# Altium schematic symbol library adafruit.SCHLIB: 648 symbols (part 3 of 4)
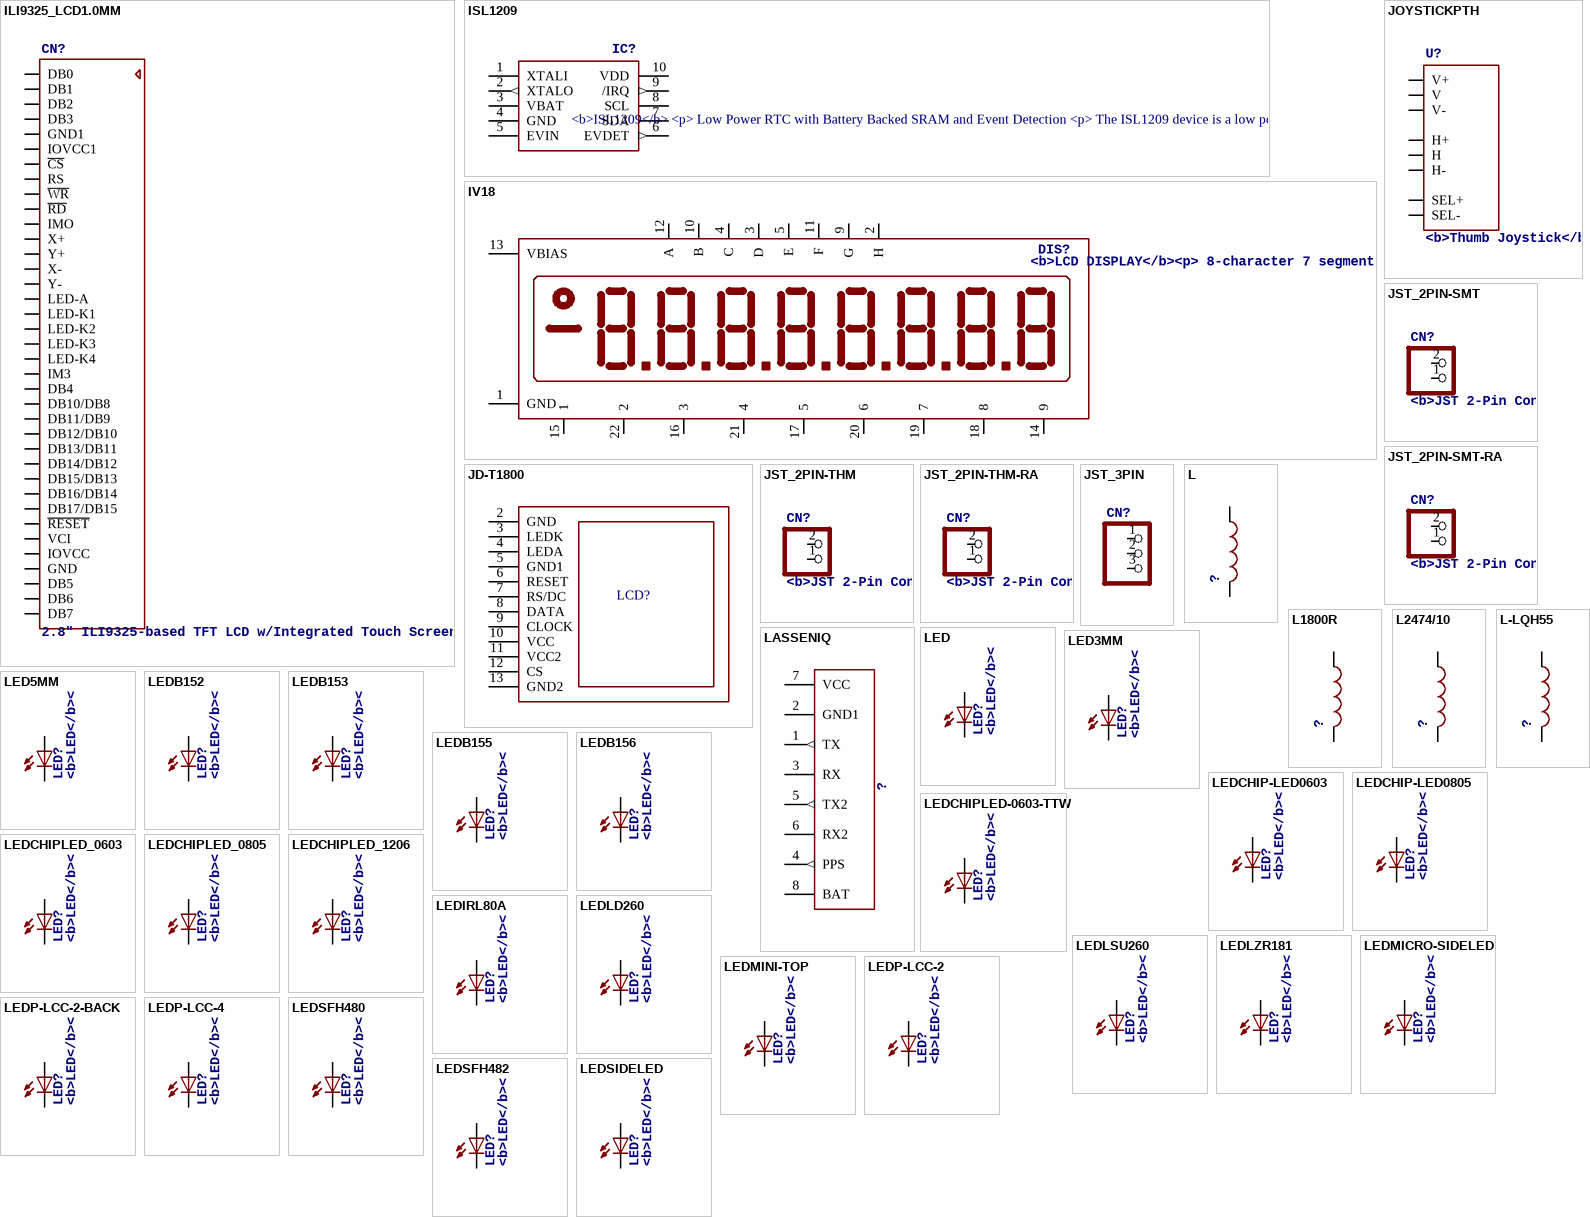
[diagram p33: symbols ILI9325_LCD1.0MM to LEDSIDELED]

## LEDMICRO-SIDELED
designator LED?, comment <b>LED</b><p> / <u>OSRAM</u>:<br> / - <u>CHIPLED</u><br> / LG R971, LG N971, LY N971, LG Q971, LY Q971, LO R971, LY R971 / LH N974, LH R974<br> / LS Q976, LO Q976, LY Q976<br> / LO Q996<br> / - <u>Hyper CHIPLED</u><br> / LW Q18S<br> / LB Q993, LB Q99A, LB R99A<br> / - <u>SideLED</u><br> / LS A670, LO A670, LY A670, LG A670, LP A670<br> / LB A673, LV A673, LT A673, LW A673<br> / LH A674<br> / LY A675<br> / LS A676, LA A676, LO A676, LY A676, LW A676<br> / LS A679, LY A679, LG A679<br> / -  <u>Hyper Micro SIDELED®</u><br> / LS Y876, LA Y876, LO Y876, LY Y876<br> / LT Y87S<br> / - <u>SmartLED</u><br> / LW L88C, LW L88S<br> / LB L89C, LB L89S, LG L890<br> / LS L89K, LO L89K, LY L89K<br> / LS L896, LA L896, LO L896, LY L896<br> / - <u>TOPLED</u><br> / LS T670, LO T670, LY T670, LG T670, LP T670<br> / LSG T670, LSP T670, LSY T670, LOP T670, LYG T670<br> / LG T671, LOG T671, LSG T671<br> / LB T673, LV T673, LT T673, LW T673<br> / LH T674<br> / LS T676, LA T676, LO T676, LY T676, LB T676, LH T676, LSB T676, LW T676<br> / LB T67C, LV T67C, LT T67C, LS T67K, LO T67K, LY T67K, LW E67C<br> / LS E67B, LA E67B, LO E67B, LY E67B, LB E67C, LV E67C, LT E67C<br> / LW T67C<br> / LS T679, LY T679, LG T679<br> / LS T770, LO T770, LY T770, LG T770, LP T770<br> / LB T773, LV T773, LT T773, LW T773<br> / LH T774<br> / LS E675, LA E675, LY E675, LS T675<br> / LS T776, LA T776, LO T776, LY T776, LB T776<br> / LHGB T686<br> / LT T68C, LB T68C<br> / - <u>Hyper Mini TOPLED®</u><br> / LB M676<br> / - <u>Mini TOPLED Santana®</u><br> / LG M470<br> / LS M47K, LO M47K, LY M47K<br> / <p> / Source: http://www.osram.convergy.de/
footprint MICRO-SIDELED
pins: A, C

## LEDMINI-TOP
designator LED?, comment <b>LED</b><p> / <u>OSRAM</u>:<br> / - <u>CHIPLED</u><br> / LG R971, LG N971, LY N971, LG Q971, LY Q971, LO R971, LY R971 / LH N974, LH R974<br> / LS Q976, LO Q976, LY Q976<br> / LO Q996<br> / - <u>Hyper CHIPLED</u><br> / LW Q18S<br> / LB Q993, LB Q99A, LB R99A<br> / - <u>SideLED</u><br> / LS A670, LO A670, LY A670, LG A670, LP A670<br> / LB A673, LV A673, LT A673, LW A673<br> / LH A674<br> / LY A675<br> / LS A676, LA A676, LO A676, LY A676, LW A676<br> / LS A679, LY A679, LG A679<br> / -  <u>Hyper Micro SIDELED®</u><br> / LS Y876, LA Y876, LO Y876, LY Y876<br> / LT Y87S<br> / - <u>SmartLED</u><br> / LW L88C, LW L88S<br> / LB L89C, LB L89S, LG L890<br> / LS L89K, LO L89K, LY L89K<br> / LS L896, LA L896, LO L896, LY L896<br> / - <u>TOPLED</u><br> / LS T670, LO T670, LY T670, LG T670, LP T670<br> / LSG T670, LSP T670, LSY T670, LOP T670, LYG T670<br> / LG T671, LOG T671, LSG T671<br> / LB T673, LV T673, LT T673, LW T673<br> / LH T674<br> / LS T676, LA T676, LO T676, LY T676, LB T676, LH T676, LSB T676, LW T676<br> / LB T67C, LV T67C, LT T67C, LS T67K, LO T67K, LY T67K, LW E67C<br> / LS E67B, LA E67B, LO E67B, LY E67B, LB E67C, LV E67C, LT E67C<br> / LW T67C<br> / LS T679, LY T679, LG T679<br> / LS T770, LO T770, LY T770, LG T770, LP T770<br> / LB T773, LV T773, LT T773, LW T773<br> / LH T774<br> / LS E675, LA E675, LY E675, LS T675<br> / LS T776, LA T776, LO T776, LY T776, LB T776<br> / LHGB T686<br> / LT T68C, LB T68C<br> / - <u>Hyper Mini TOPLED®</u><br> / LB M676<br> / - <u>Mini TOPLED Santana®</u><br> / LG M470<br> / LS M47K, LO M47K, LY M47K<br> / <p> / Source: http://www.osram.convergy.de/
footprint OSRAM-MINI-TOP-LED
pins: A, C

## LEDP-LCC-2
designator LED?, comment <b>LED</b><p> / <u>OSRAM</u>:<br> / - <u>CHIPLED</u><br> / LG R971, LG N971, LY N971, LG Q971, LY Q971, LO R971, LY R971 / LH N974, LH R974<br> / LS Q976, LO Q976, LY Q976<br> / LO Q996<br> / - <u>Hyper CHIPLED</u><br> / LW Q18S<br> / LB Q993, LB Q99A, LB R99A<br> / - <u>SideLED</u><br> / LS A670, LO A670, LY A670, LG A670, LP A670<br> / LB A673, LV A673, LT A673, LW A673<br> / LH A674<br> / LY A675<br> / LS A676, LA A676, LO A676, LY A676, LW A676<br> / LS A679, LY A679, LG A679<br> / -  <u>Hyper Micro SIDELED®</u><br> / LS Y876, LA Y876, LO Y876, LY Y876<br> / LT Y87S<br> / - <u>SmartLED</u><br> / LW L88C, LW L88S<br> / LB L89C, LB L89S, LG L890<br> / LS L89K, LO L89K, LY L89K<br> / LS L896, LA L896, LO L896, LY L896<br> / - <u>TOPLED</u><br> / LS T670, LO T670, LY T670, LG T670, LP T670<br> / LSG T670, LSP T670, LSY T670, LOP T670, LYG T670<br> / LG T671, LOG T671, LSG T671<br> / LB T673, LV T673, LT T673, LW T673<br> / LH T674<br> / LS T676, LA T676, LO T676, LY T676, LB T676, LH T676, LSB T676, LW T676<br> / LB T67C, LV T67C, LT T67C, LS T67K, LO T67K, LY T67K, LW E67C<br> / LS E67B, LA E67B, LO E67B, LY E67B, LB E67C, LV E67C, LT E67C<br> / LW T67C<br> / LS T679, LY T679, LG T679<br> / LS T770, LO T770, LY T770, LG T770, LP T770<br> / LB T773, LV T773, LT T773, LW T773<br> / LH T774<br> / LS E675, LA E675, LY E675, LS T675<br> / LS T776, LA T776, LO T776, LY T776, LB T776<br> / LHGB T686<br> / LT T68C, LB T68C<br> / - <u>Hyper Mini TOPLED®</u><br> / LB M676<br> / - <u>Mini TOPLED Santana®</u><br> / LG M470<br> / LS M47K, LO M47K, LY M47K<br> / <p> / Source: http://www.osram.convergy.de/
footprint P-LCC-2
pins: A, C

## LEDP-LCC-2-BACK
designator LED?, comment <b>LED</b><p> / <u>OSRAM</u>:<br> / - <u>CHIPLED</u><br> / LG R971, LG N971, LY N971, LG Q971, LY Q971, LO R971, LY R971 / LH N974, LH R974<br> / LS Q976, LO Q976, LY Q976<br> / LO Q996<br> / - <u>Hyper CHIPLED</u><br> / LW Q18S<br> / LB Q993, LB Q99A, LB R99A<br> / - <u>SideLED</u><br> / LS A670, LO A670, LY A670, LG A670, LP A670<br> / LB A673, LV A673, LT A673, LW A673<br> / LH A674<br> / LY A675<br> / LS A676, LA A676, LO A676, LY A676, LW A676<br> / LS A679, LY A679, LG A679<br> / -  <u>Hyper Micro SIDELED®</u><br> / LS Y876, LA Y876, LO Y876, LY Y876<br> / LT Y87S<br> / - <u>SmartLED</u><br> / LW L88C, LW L88S<br> / LB L89C, LB L89S, LG L890<br> / LS L89K, LO L89K, LY L89K<br> / LS L896, LA L896, LO L896, LY L896<br> / - <u>TOPLED</u><br> / LS T670, LO T670, LY T670, LG T670, LP T670<br> / LSG T670, LSP T670, LSY T670, LOP T670, LYG T670<br> / LG T671, LOG T671, LSG T671<br> / LB T673, LV T673, LT T673, LW T673<br> / LH T674<br> / LS T676, LA T676, LO T676, LY T676, LB T676, LH T676, LSB T676, LW T676<br> / LB T67C, LV T67C, LT T67C, LS T67K, LO T67K, LY T67K, LW E67C<br> / LS E67B, LA E67B, LO E67B, LY E67B, LB E67C, LV E67C, LT E67C<br> / LW T67C<br> / LS T679, LY T679, LG T679<br> / LS T770, LO T770, LY T770, LG T770, LP T770<br> / LB T773, LV T773, LT T773, LW T773<br> / LH T774<br> / LS E675, LA E675, LY E675, LS T675<br> / LS T776, LA T776, LO T776, LY T776, LB T776<br> / LHGB T686<br> / LT T68C, LB T68C<br> / - <u>Hyper Mini TOPLED®</u><br> / LB M676<br> / - <u>Mini TOPLED Santana®</u><br> / LG M470<br> / LS M47K, LO M47K, LY M47K<br> / <p> / Source: http://www.osram.convergy.de/
footprint P-LCC-2-TOPLED-RG
pins: A, C

## LEDP-LCC-4
designator LED?, comment <b>LED</b><p> / <u>OSRAM</u>:<br> / - <u>CHIPLED</u><br> / LG R971, LG N971, LY N971, LG Q971, LY Q971, LO R971, LY R971 / LH N974, LH R974<br> / LS Q976, LO Q976, LY Q976<br> / LO Q996<br> / - <u>Hyper CHIPLED</u><br> / LW Q18S<br> / LB Q993, LB Q99A, LB R99A<br> / - <u>SideLED</u><br> / LS A670, LO A670, LY A670, LG A670, LP A670<br> / LB A673, LV A673, LT A673, LW A673<br> / LH A674<br> / LY A675<br> / LS A676, LA A676, LO A676, LY A676, LW A676<br> / LS A679, LY A679, LG A679<br> / -  <u>Hyper Micro SIDELED®</u><br> / LS Y876, LA Y876, LO Y876, LY Y876<br> / LT Y87S<br> / - <u>SmartLED</u><br> / LW L88C, LW L88S<br> / LB L89C, LB L89S, LG L890<br> / LS L89K, LO L89K, LY L89K<br> / LS L896, LA L896, LO L896, LY L896<br> / - <u>TOPLED</u><br> / LS T670, LO T670, LY T670, LG T670, LP T670<br> / LSG T670, LSP T670, LSY T670, LOP T670, LYG T670<br> / LG T671, LOG T671, LSG T671<br> / LB T673, LV T673, LT T673, LW T673<br> / LH T674<br> / LS T676, LA T676, LO T676, LY T676, LB T676, LH T676, LSB T676, LW T676<br> / LB T67C, LV T67C, LT T67C, LS T67K, LO T67K, LY T67K, LW E67C<br> / LS E67B, LA E67B, LO E67B, LY E67B, LB E67C, LV E67C, LT E67C<br> / LW T67C<br> / LS T679, LY T679, LG T679<br> / LS T770, LO T770, LY T770, LG T770, LP T770<br> / LB T773, LV T773, LT T773, LW T773<br> / LH T774<br> / LS E675, LA E675, LY E675, LS T675<br> / LS T776, LA T776, LO T776, LY T776, LB T776<br> / LHGB T686<br> / LT T68C, LB T68C<br> / - <u>Hyper Mini TOPLED®</u><br> / LB M676<br> / - <u>Mini TOPLED Santana®</u><br> / LG M470<br> / LS M47K, LO M47K, LY M47K<br> / <p> / Source: http://www.osram.convergy.de/
footprint P-LCC-4
pins: A, C@4 C

## LEDSFH480
designator LED?, comment <b>LED</b><p> / <u>OSRAM</u>:<br> / - <u>CHIPLED</u><br> / LG R971, LG N971, LY N971, LG Q971, LY Q971, LO R971, LY R971 / LH N974, LH R974<br> / LS Q976, LO Q976, LY Q976<br> / LO Q996<br> / - <u>Hyper CHIPLED</u><br> / LW Q18S<br> / LB Q993, LB Q99A, LB R99A<br> / - <u>SideLED</u><br> / LS A670, LO A670, LY A670, LG A670, LP A670<br> / LB A673, LV A673, LT A673, LW A673<br> / LH A674<br> / LY A675<br> / LS A676, LA A676, LO A676, LY A676, LW A676<br> / LS A679, LY A679, LG A679<br> / -  <u>Hyper Micro SIDELED®</u><br> / LS Y876, LA Y876, LO Y876, LY Y876<br> / LT Y87S<br> / - <u>SmartLED</u><br> / LW L88C, LW L88S<br> / LB L89C, LB L89S, LG L890<br> / LS L89K, LO L89K, LY L89K<br> / LS L896, LA L896, LO L896, LY L896<br> / - <u>TOPLED</u><br> / LS T670, LO T670, LY T670, LG T670, LP T670<br> / LSG T670, LSP T670, LSY T670, LOP T670, LYG T670<br> / LG T671, LOG T671, LSG T671<br> / LB T673, LV T673, LT T673, LW T673<br> / LH T674<br> / LS T676, LA T676, LO T676, LY T676, LB T676, LH T676, LSB T676, LW T676<br> / LB T67C, LV T67C, LT T67C, LS T67K, LO T67K, LY T67K, LW E67C<br> / LS E67B, LA E67B, LO E67B, LY E67B, LB E67C, LV E67C, LT E67C<br> / LW T67C<br> / LS T679, LY T679, LG T679<br> / LS T770, LO T770, LY T770, LG T770, LP T770<br> / LB T773, LV T773, LT T773, LW T773<br> / LH T774<br> / LS E675, LA E675, LY E675, LS T675<br> / LS T776, LA T776, LO T776, LY T776, LB T776<br> / LHGB T686<br> / LT T68C, LB T68C<br> / - <u>Hyper Mini TOPLED®</u><br> / LB M676<br> / - <u>Mini TOPLED Santana®</u><br> / LG M470<br> / LS M47K, LO M47K, LY M47K<br> / <p> / Source: http://www.osram.convergy.de/
footprint SFH480
pins: A, K C

## LEDSFH482
designator LED?, comment <b>LED</b><p> / <u>OSRAM</u>:<br> / - <u>CHIPLED</u><br> / LG R971, LG N971, LY N971, LG Q971, LY Q971, LO R971, LY R971 / LH N974, LH R974<br> / LS Q976, LO Q976, LY Q976<br> / LO Q996<br> / - <u>Hyper CHIPLED</u><br> / LW Q18S<br> / LB Q993, LB Q99A, LB R99A<br> / - <u>SideLED</u><br> / LS A670, LO A670, LY A670, LG A670, LP A670<br> / LB A673, LV A673, LT A673, LW A673<br> / LH A674<br> / LY A675<br> / LS A676, LA A676, LO A676, LY A676, LW A676<br> / LS A679, LY A679, LG A679<br> / -  <u>Hyper Micro SIDELED®</u><br> / LS Y876, LA Y876, LO Y876, LY Y876<br> / LT Y87S<br> / - <u>SmartLED</u><br> / LW L88C, LW L88S<br> / LB L89C, LB L89S, LG L890<br> / LS L89K, LO L89K, LY L89K<br> / LS L896, LA L896, LO L896, LY L896<br> / - <u>TOPLED</u><br> / LS T670, LO T670, LY T670, LG T670, LP T670<br> / LSG T670, LSP T670, LSY T670, LOP T670, LYG T670<br> / LG T671, LOG T671, LSG T671<br> / LB T673, LV T673, LT T673, LW T673<br> / LH T674<br> / LS T676, LA T676, LO T676, LY T676, LB T676, LH T676, LSB T676, LW T676<br> / LB T67C, LV T67C, LT T67C, LS T67K, LO T67K, LY T67K, LW E67C<br> / LS E67B, LA E67B, LO E67B, LY E67B, LB E67C, LV E67C, LT E67C<br> / LW T67C<br> / LS T679, LY T679, LG T679<br> / LS T770, LO T770, LY T770, LG T770, LP T770<br> / LB T773, LV T773, LT T773, LW T773<br> / LH T774<br> / LS E675, LA E675, LY E675, LS T675<br> / LS T776, LA T776, LO T776, LY T776, LB T776<br> / LHGB T686<br> / LT T68C, LB T68C<br> / - <u>Hyper Mini TOPLED®</u><br> / LB M676<br> / - <u>Mini TOPLED Santana®</u><br> / LG M470<br> / LS M47K, LO M47K, LY M47K<br> / <p> / Source: http://www.osram.convergy.de/
footprint SFH482
pins: A, K C

## LEDSIDELED
designator LED?, comment <b>LED</b><p> / <u>OSRAM</u>:<br> / - <u>CHIPLED</u><br> / LG R971, LG N971, LY N971, LG Q971, LY Q971, LO R971, LY R971 / LH N974, LH R974<br> / LS Q976, LO Q976, LY Q976<br> / LO Q996<br> / - <u>Hyper CHIPLED</u><br> / LW Q18S<br> / LB Q993, LB Q99A, LB R99A<br> / - <u>SideLED</u><br> / LS A670, LO A670, LY A670, LG A670, LP A670<br> / LB A673, LV A673, LT A673, LW A673<br> / LH A674<br> / LY A675<br> / LS A676, LA A676, LO A676, LY A676, LW A676<br> / LS A679, LY A679, LG A679<br> / -  <u>Hyper Micro SIDELED®</u><br> / LS Y876, LA Y876, LO Y876, LY Y876<br> / LT Y87S<br> / - <u>SmartLED</u><br> / LW L88C, LW L88S<br> / LB L89C, LB L89S, LG L890<br> / LS L89K, LO L89K, LY L89K<br> / LS L896, LA L896, LO L896, LY L896<br> / - <u>TOPLED</u><br> / LS T670, LO T670, LY T670, LG T670, LP T670<br> / LSG T670, LSP T670, LSY T670, LOP T670, LYG T670<br> / LG T671, LOG T671, LSG T671<br> / LB T673, LV T673, LT T673, LW T673<br> / LH T674<br> / LS T676, LA T676, LO T676, LY T676, LB T676, LH T676, LSB T676, LW T676<br> / LB T67C, LV T67C, LT T67C, LS T67K, LO T67K, LY T67K, LW E67C<br> / LS E67B, LA E67B, LO E67B, LY E67B, LB E67C, LV E67C, LT E67C<br> / LW T67C<br> / LS T679, LY T679, LG T679<br> / LS T770, LO T770, LY T770, LG T770, LP T770<br> / LB T773, LV T773, LT T773, LW T773<br> / LH T774<br> / LS E675, LA E675, LY E675, LS T675<br> / LS T776, LA T776, LO T776, LY T776, LB T776<br> / LHGB T686<br> / LT T68C, LB T68C<br> / - <u>Hyper Mini TOPLED®</u><br> / LB M676<br> / - <u>Mini TOPLED Santana®</u><br> / LG M470<br> / LS M47K, LO M47K, LY M47K<br> / <p> / Source: http://www.osram.convergy.de/
footprint OSRAM-SIDELED
pins: A, C

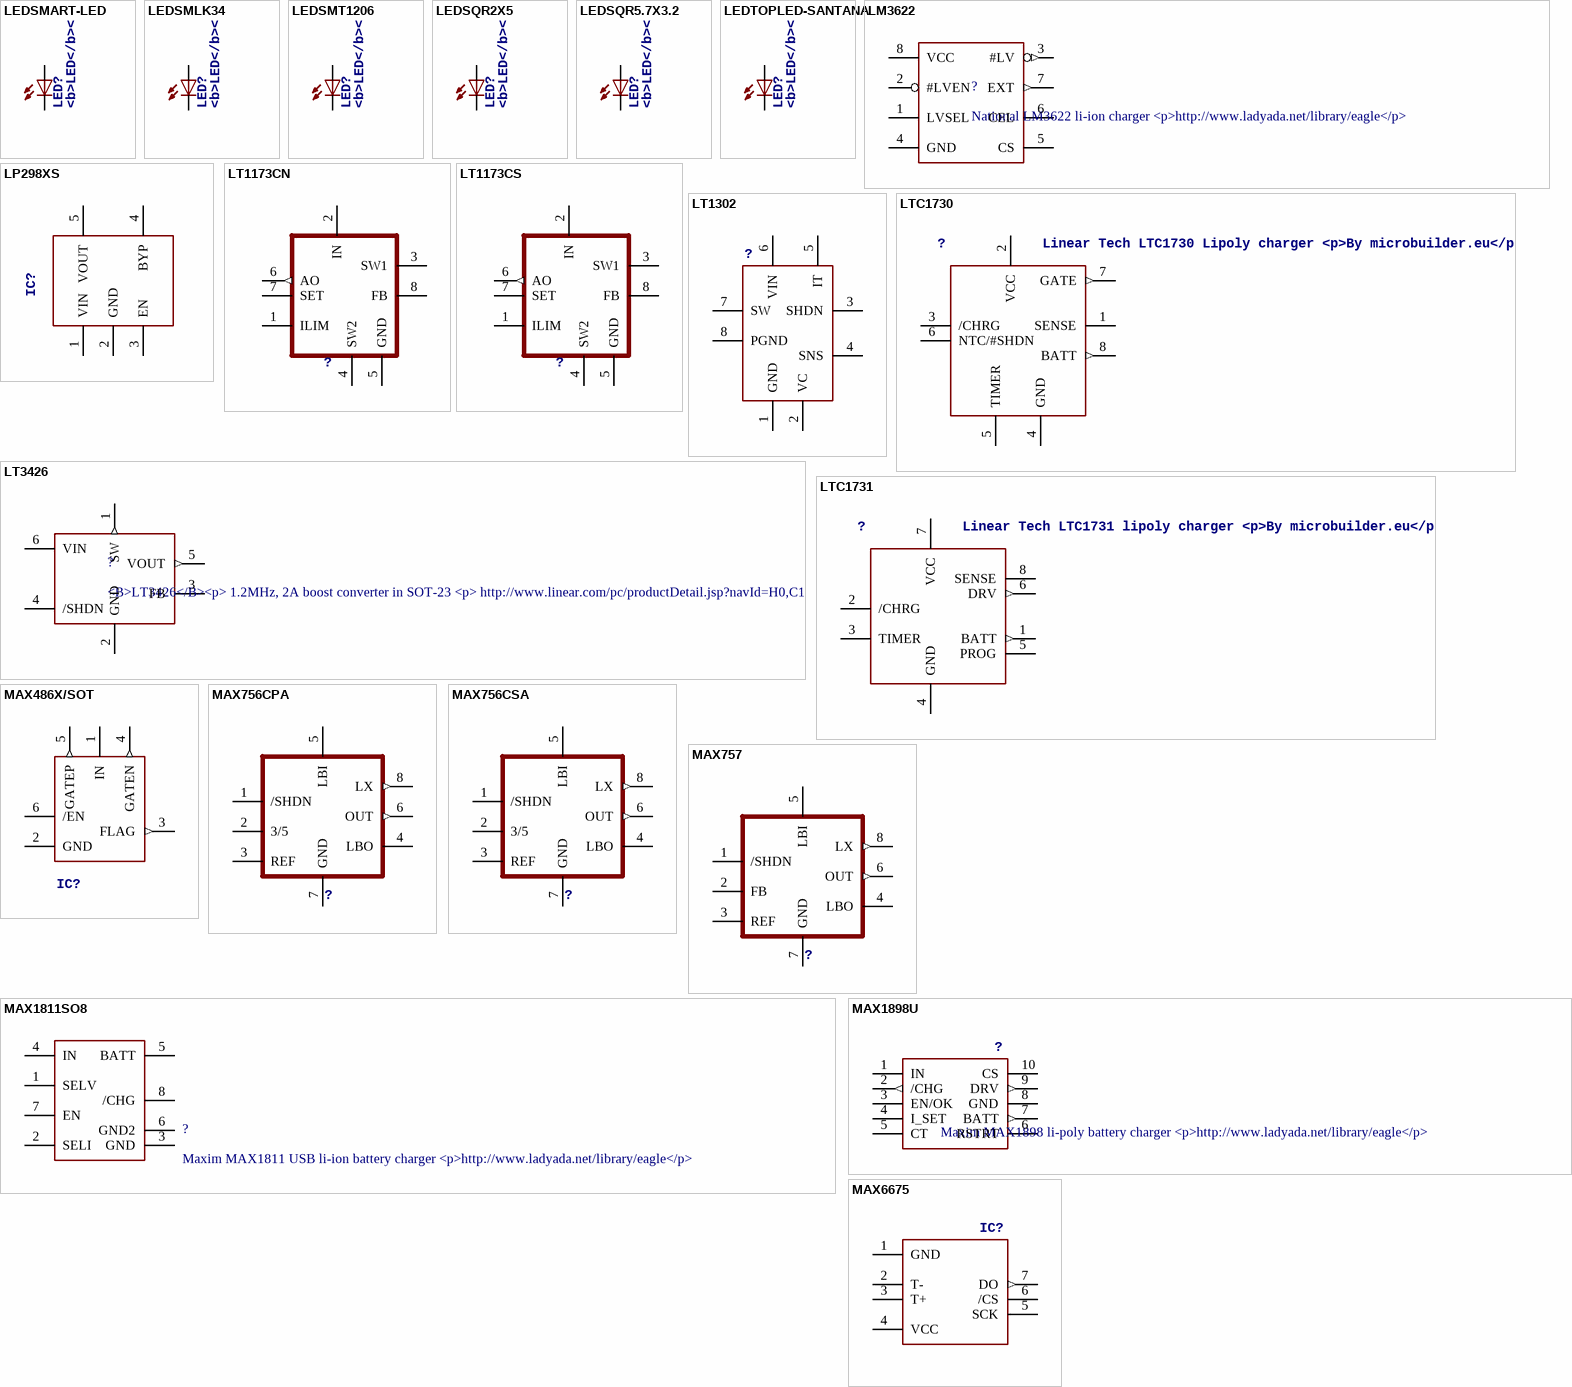
[diagram p20: symbols LEDSMART-LED to MAX6675]

## LEDSMART-LED
designator LED?, comment <b>LED</b><p> / <u>OSRAM</u>:<br> / - <u>CHIPLED</u><br> / LG R971, LG N971, LY N971, LG Q971, LY Q971, LO R971, LY R971 / LH N974, LH R974<br> / LS Q976, LO Q976, LY Q976<br> / LO Q996<br> / - <u>Hyper CHIPLED</u><br> / LW Q18S<br> / LB Q993, LB Q99A, LB R99A<br> / - <u>SideLED</u><br> / LS A670, LO A670, LY A670, LG A670, LP A670<br> / LB A673, LV A673, LT A673, LW A673<br> / LH A674<br> / LY A675<br> / LS A676, LA A676, LO A676, LY A676, LW A676<br> / LS A679, LY A679, LG A679<br> / -  <u>Hyper Micro SIDELED®</u><br> / LS Y876, LA Y876, LO Y876, LY Y876<br> / LT Y87S<br> / - <u>SmartLED</u><br> / LW L88C, LW L88S<br> / LB L89C, LB L89S, LG L890<br> / LS L89K, LO L89K, LY L89K<br> / LS L896, LA L896, LO L896, LY L896<br> / - <u>TOPLED</u><br> / LS T670, LO T670, LY T670, LG T670, LP T670<br> / LSG T670, LSP T670, LSY T670, LOP T670, LYG T670<br> / LG T671, LOG T671, LSG T671<br> / LB T673, LV T673, LT T673, LW T673<br> / LH T674<br> / LS T676, LA T676, LO T676, LY T676, LB T676, LH T676, LSB T676, LW T676<br> / LB T67C, LV T67C, LT T67C, LS T67K, LO T67K, LY T67K, LW E67C<br> / LS E67B, LA E67B, LO E67B, LY E67B, LB E67C, LV E67C, LT E67C<br> / LW T67C<br> / LS T679, LY T679, LG T679<br> / LS T770, LO T770, LY T770, LG T770, LP T770<br> / LB T773, LV T773, LT T773, LW T773<br> / LH T774<br> / LS E675, LA E675, LY E675, LS T675<br> / LS T776, LA T776, LO T776, LY T776, LB T776<br> / LHGB T686<br> / LT T68C, LB T68C<br> / - <u>Hyper Mini TOPLED®</u><br> / LB M676<br> / - <u>Mini TOPLED Santana®</u><br> / LG M470<br> / LS M47K, LO M47K, LY M47K<br> / <p> / Source: http://www.osram.convergy.de/
footprint SMART-LED
pins: A, B C

## LEDSMLK34
designator LED?, comment <b>LED</b><p> / <u>OSRAM</u>:<br> / - <u>CHIPLED</u><br> / LG R971, LG N971, LY N971, LG Q971, LY Q971, LO R971, LY R971 / LH N974, LH R974<br> / LS Q976, LO Q976, LY Q976<br> / LO Q996<br> / - <u>Hyper CHIPLED</u><br> / LW Q18S<br> / LB Q993, LB Q99A, LB R99A<br> / - <u>SideLED</u><br> / LS A670, LO A670, LY A670, LG A670, LP A670<br> / LB A673, LV A673, LT A673, LW A673<br> / LH A674<br> / LY A675<br> / LS A676, LA A676, LO A676, LY A676, LW A676<br> / LS A679, LY A679, LG A679<br> / -  <u>Hyper Micro SIDELED®</u><br> / LS Y876, LA Y876, LO Y876, LY Y876<br> / LT Y87S<br> / - <u>SmartLED</u><br> / LW L88C, LW L88S<br> / LB L89C, LB L89S, LG L890<br> / LS L89K, LO L89K, LY L89K<br> / LS L896, LA L896, LO L896, LY L896<br> / - <u>TOPLED</u><br> / LS T670, LO T670, LY T670, LG T670, LP T670<br> / LSG T670, LSP T670, LSY T670, LOP T670, LYG T670<br> / LG T671, LOG T671, LSG T671<br> / LB T673, LV T673, LT T673, LW T673<br> / LH T674<br> / LS T676, LA T676, LO T676, LY T676, LB T676, LH T676, LSB T676, LW T676<br> / LB T67C, LV T67C, LT T67C, LS T67K, LO T67K, LY T67K, LW E67C<br> / LS E67B, LA E67B, LO E67B, LY E67B, LB E67C, LV E67C, LT E67C<br> / LW T67C<br> / LS T679, LY T679, LG T679<br> / LS T770, LO T770, LY T770, LG T770, LP T770<br> / LB T773, LV T773, LT T773, LW T773<br> / LH T774<br> / LS E675, LA E675, LY E675, LS T675<br> / LS T776, LA T776, LO T776, LY T776, LB T776<br> / LHGB T686<br> / LT T68C, LB T68C<br> / - <u>Hyper Mini TOPLED®</u><br> / LB M676<br> / - <u>Mini TOPLED Santana®</u><br> / LG M470<br> / LS M47K, LO M47K, LY M47K<br> / <p> / Source: http://www.osram.convergy.de/
footprint SMLK34
pins: A, K C

## LEDSMT1206
designator LED?, comment <b>LED</b><p> / <u>OSRAM</u>:<br> / - <u>CHIPLED</u><br> / LG R971, LG N971, LY N971, LG Q971, LY Q971, LO R971, LY R971 / LH N974, LH R974<br> / LS Q976, LO Q976, LY Q976<br> / LO Q996<br> / - <u>Hyper CHIPLED</u><br> / LW Q18S<br> / LB Q993, LB Q99A, LB R99A<br> / - <u>SideLED</u><br> / LS A670, LO A670, LY A670, LG A670, LP A670<br> / LB A673, LV A673, LT A673, LW A673<br> / LH A674<br> / LY A675<br> / LS A676, LA A676, LO A676, LY A676, LW A676<br> / LS A679, LY A679, LG A679<br> / -  <u>Hyper Micro SIDELED®</u><br> / LS Y876, LA Y876, LO Y876, LY Y876<br> / LT Y87S<br> / - <u>SmartLED</u><br> / LW L88C, LW L88S<br> / LB L89C, LB L89S, LG L890<br> / LS L89K, LO L89K, LY L89K<br> / LS L896, LA L896, LO L896, LY L896<br> / - <u>TOPLED</u><br> / LS T670, LO T670, LY T670, LG T670, LP T670<br> / LSG T670, LSP T670, LSY T670, LOP T670, LYG T670<br> / LG T671, LOG T671, LSG T671<br> / LB T673, LV T673, LT T673, LW T673<br> / LH T674<br> / LS T676, LA T676, LO T676, LY T676, LB T676, LH T676, LSB T676, LW T676<br> / LB T67C, LV T67C, LT T67C, LS T67K, LO T67K, LY T67K, LW E67C<br> / LS E67B, LA E67B, LO E67B, LY E67B, LB E67C, LV E67C, LT E67C<br> / LW T67C<br> / LS T679, LY T679, LG T679<br> / LS T770, LO T770, LY T770, LG T770, LP T770<br> / LB T773, LV T773, LT T773, LW T773<br> / LH T774<br> / LS E675, LA E675, LY E675, LS T675<br> / LS T776, LA T776, LO T776, LY T776, LB T776<br> / LHGB T686<br> / LT T68C, LB T68C<br> / - <u>Hyper Mini TOPLED®</u><br> / LB M676<br> / - <u>Mini TOPLED Santana®</u><br> / LG M470<br> / LS M47K, LO M47K, LY M47K<br> / <p> / Source: http://www.osram.convergy.de/
footprint 1206
pins: A, C

## LEDSQR2X5
designator LED?, comment <b>LED</b><p> / <u>OSRAM</u>:<br> / - <u>CHIPLED</u><br> / LG R971, LG N971, LY N971, LG Q971, LY Q971, LO R971, LY R971 / LH N974, LH R974<br> / LS Q976, LO Q976, LY Q976<br> / LO Q996<br> / - <u>Hyper CHIPLED</u><br> / LW Q18S<br> / LB Q993, LB Q99A, LB R99A<br> / - <u>SideLED</u><br> / LS A670, LO A670, LY A670, LG A670, LP A670<br> / LB A673, LV A673, LT A673, LW A673<br> / LH A674<br> / LY A675<br> / LS A676, LA A676, LO A676, LY A676, LW A676<br> / LS A679, LY A679, LG A679<br> / -  <u>Hyper Micro SIDELED®</u><br> / LS Y876, LA Y876, LO Y876, LY Y876<br> / LT Y87S<br> / - <u>SmartLED</u><br> / LW L88C, LW L88S<br> / LB L89C, LB L89S, LG L890<br> / LS L89K, LO L89K, LY L89K<br> / LS L896, LA L896, LO L896, LY L896<br> / - <u>TOPLED</u><br> / LS T670, LO T670, LY T670, LG T670, LP T670<br> / LSG T670, LSP T670, LSY T670, LOP T670, LYG T670<br> / LG T671, LOG T671, LSG T671<br> / LB T673, LV T673, LT T673, LW T673<br> / LH T674<br> / LS T676, LA T676, LO T676, LY T676, LB T676, LH T676, LSB T676, LW T676<br> / LB T67C, LV T67C, LT T67C, LS T67K, LO T67K, LY T67K, LW E67C<br> / LS E67B, LA E67B, LO E67B, LY E67B, LB E67C, LV E67C, LT E67C<br> / LW T67C<br> / LS T679, LY T679, LG T679<br> / LS T770, LO T770, LY T770, LG T770, LP T770<br> / LB T773, LV T773, LT T773, LW T773<br> / LH T774<br> / LS E675, LA E675, LY E675, LS T675<br> / LS T776, LA T776, LO T776, LY T776, LB T776<br> / LHGB T686<br> / LT T68C, LB T68C<br> / - <u>Hyper Mini TOPLED®</u><br> / LB M676<br> / - <u>Mini TOPLED Santana®</u><br> / LG M470<br> / LS M47K, LO M47K, LY M47K<br> / <p> / Source: http://www.osram.convergy.de/
footprint LED2X5
pins: A, K C

## LEDSQR5.7X3.2
designator LED?, comment <b>LED</b><p> / <u>OSRAM</u>:<br> / - <u>CHIPLED</u><br> / LG R971, LG N971, LY N971, LG Q971, LY Q971, LO R971, LY R971 / LH N974, LH R974<br> / LS Q976, LO Q976, LY Q976<br> / LO Q996<br> / - <u>Hyper CHIPLED</u><br> / LW Q18S<br> / LB Q993, LB Q99A, LB R99A<br> / - <u>SideLED</u><br> / LS A670, LO A670, LY A670, LG A670, LP A670<br> / LB A673, LV A673, LT A673, LW A673<br> / LH A674<br> / LY A675<br> / LS A676, LA A676, LO A676, LY A676, LW A676<br> / LS A679, LY A679, LG A679<br> / -  <u>Hyper Micro SIDELED®</u><br> / LS Y876, LA Y876, LO Y876, LY Y876<br> / LT Y87S<br> / - <u>SmartLED</u><br> / LW L88C, LW L88S<br> / LB L89C, LB L89S, LG L890<br> / LS L89K, LO L89K, LY L89K<br> / LS L896, LA L896, LO L896, LY L896<br> / - <u>TOPLED</u><br> / LS T670, LO T670, LY T670, LG T670, LP T670<br> / LSG T670, LSP T670, LSY T670, LOP T670, LYG T670<br> / LG T671, LOG T671, LSG T671<br> / LB T673, LV T673, LT T673, LW T673<br> / LH T674<br> / LS T676, LA T676, LO T676, LY T676, LB T676, LH T676, LSB T676, LW T676<br> / LB T67C, LV T67C, LT T67C, LS T67K, LO T67K, LY T67K, LW E67C<br> / LS E67B, LA E67B, LO E67B, LY E67B, LB E67C, LV E67C, LT E67C<br> / LW T67C<br> / LS T679, LY T679, LG T679<br> / LS T770, LO T770, LY T770, LG T770, LP T770<br> / LB T773, LV T773, LT T773, LW T773<br> / LH T774<br> / LS E675, LA E675, LY E675, LS T675<br> / LS T776, LA T776, LO T776, LY T776, LB T776<br> / LHGB T686<br> / LT T68C, LB T68C<br> / - <u>Hyper Mini TOPLED®</u><br> / LB M676<br> / - <u>Mini TOPLED Santana®</u><br> / LG M470<br> / LS M47K, LO M47K, LY M47K<br> / <p> / Source: http://www.osram.convergy.de/
footprint U57X32
pins: A, K C

## LEDTOPLED-SANTANA
designator LED?, comment <b>LED</b><p> / <u>OSRAM</u>:<br> / - <u>CHIPLED</u><br> / LG R971, LG N971, LY N971, LG Q971, LY Q971, LO R971, LY R971 / LH N974, LH R974<br> / LS Q976, LO Q976, LY Q976<br> / LO Q996<br> / - <u>Hyper CHIPLED</u><br> / LW Q18S<br> / LB Q993, LB Q99A, LB R99A<br> / - <u>SideLED</u><br> / LS A670, LO A670, LY A670, LG A670, LP A670<br> / LB A673, LV A673, LT A673, LW A673<br> / LH A674<br> / LY A675<br> / LS A676, LA A676, LO A676, LY A676, LW A676<br> / LS A679, LY A679, LG A679<br> / -  <u>Hyper Micro SIDELED®</u><br> / LS Y876, LA Y876, LO Y876, LY Y876<br> / LT Y87S<br> / - <u>SmartLED</u><br> / LW L88C, LW L88S<br> / LB L89C, LB L89S, LG L890<br> / LS L89K, LO L89K, LY L89K<br> / LS L896, LA L896, LO L896, LY L896<br> / - <u>TOPLED</u><br> / LS T670, LO T670, LY T670, LG T670, LP T670<br> / LSG T670, LSP T670, LSY T670, LOP T670, LYG T670<br> / LG T671, LOG T671, LSG T671<br> / LB T673, LV T673, LT T673, LW T673<br> / LH T674<br> / LS T676, LA T676, LO T676, LY T676, LB T676, LH T676, LSB T676, LW T676<br> / LB T67C, LV T67C, LT T67C, LS T67K, LO T67K, LY T67K, LW E67C<br> / LS E67B, LA E67B, LO E67B, LY E67B, LB E67C, LV E67C, LT E67C<br> / LW T67C<br> / LS T679, LY T679, LG T679<br> / LS T770, LO T770, LY T770, LG T770, LP T770<br> / LB T773, LV T773, LT T773, LW T773<br> / LH T774<br> / LS E675, LA E675, LY E675, LS T675<br> / LS T776, LA T776, LO T776, LY T776, LB T776<br> / LHGB T686<br> / LT T68C, LB T68C<br> / - <u>Hyper Mini TOPLED®</u><br> / LB M676<br> / - <u>Mini TOPLED Santana®</u><br> / LG M470<br> / LS M47K, LO M47K, LY M47K<br> / <p> / Source: http://www.osram.convergy.de/
footprint MINI-TOPLED-SANTANA
pins: A, C

## LM3622
designator ?, comment National LM3622 li-ion charger / <p>http://www.ladyada.net/library/eagle</p>
footprint SO08
pins: 1 LVSEL, 2 #LVEN, 3 #LV (out), 4 GND (oe), 5 CS, 6 CEL, 7 EXT (out), 8 VCC (oe)

## LP298XS
designator IC?
footprint SOT23-5L
pins: 1 VIN, 2 GND, 3 EN, 4 BYP, 5 VOUT

## LT1173CN
designator ?
footprint DIL08
pins: 1 ILIM, 2 IN, 3 SW1, 4 SW2, 5 GND (power), 6 AO (out), 7 SET, 8 FB (oe)

## LT1173CS
designator ?
footprint SO08
pins: 1 ILIM, 2 IN, 3 SW1, 4 SW2, 5 GND (power), 6 AO (out), 7 SET, 8 FB (oe)

## LT1302
designator ?
footprint DIL08
pins: 1 GND, 2 VC, 3 SHDN, 4 SNS, 5 IT, 6 VIN, 7 SW, 8 PGND

## LT3426
designator ?, comment <B>LT3426</B><p> / 1.2MHz, 2A boost converter in SOT-23 / <p> / http://www.linear.com/pc/productDetail.jsp?navId=H0,C1,C1003,C1042,C1031,C1061,P8430 (Linear website)
footprint SOT23-6
pins: 1 SW (out), 2 GND (oe), 3 FB, 4 /SHDN, 5 VOUT (out), 6 VIN

## LTC1730
designator ?, comment Linear Tech LTC1730 Lipoly charger / <p>By microbuilder.eu</p>
footprint SO08
pins: 1 SENSE, 2 VCC (oe), 3 /CHRG, 4 GND (oe), 5 TIMER, 6 NTC/#SHDN, 7 GATE (out), 8 BATT (out)

## LTC1731
designator ?, comment Linear Tech LTC1731 lipoly charger / <p>By microbuilder.eu</p>
footprint SO08
pins: 1 BATT (out), 2 /CHRG, 3 TIMER, 4 GND (oe), 5 PROG, 6 DRV (out), 7 VCC (oe), 8 SENSE

## MAX486X/SOT
designator IC?
footprint SOT23-6
pins: 1 IN, 2 GND (power), 3 FLAG (out), 4 GATEN (out), 5 GATEP (out), 6 /EN

## MAX756CPA
designator ?
footprint DIL08
pins: 1 /SHDN, 2 3/5, 3 REF, 4 LBO, 5 LBI, 6 OUT (out), 7 GND (power), 8 LX (out)

## MAX756CSA
designator ?
footprint SO08
pins: 1 /SHDN, 2 3/5, 3 REF, 4 LBO, 5 LBI, 6 OUT (out), 7 GND (power), 8 LX (out)

## MAX757
designator ?
footprint DIL08
pins: 1 /SHDN, 2 FB, 3 REF, 4 LBO, 5 LBI, 6 OUT (out), 7 GND (power), 8 LX (out)

## MAX1811SO8
designator ?, comment Maxim MAX1811 USB li-ion battery charger / <p>http://www.ladyada.net/library/eagle</p>
footprint SO08
pins: 1 SELV, 2 SELI, 3 GND, 4 IN, 5 BATT, 6 GND2, 7 EN, 8 /CHG

## MAX1898U
designator ?, comment Maxim MAX1898 li-poly battery charger / <p>http://www.ladyada.net/library/eagle</p>
footprint UMAX10
pins: 1 IN, 2 /CHG (out), 3 EN/OK, 4 I_SET, 5 CT, 6 RSTRT, 7 BATT (out), 8 GND (power), 9 DRV (out), 10 CS

## MAX6675
designator IC?
footprint SO08
pins: 1 GND (power), 2 T-, 3 T+, 4 VCC (power), 5 SCK, 6 /CS, 7 DO (out)

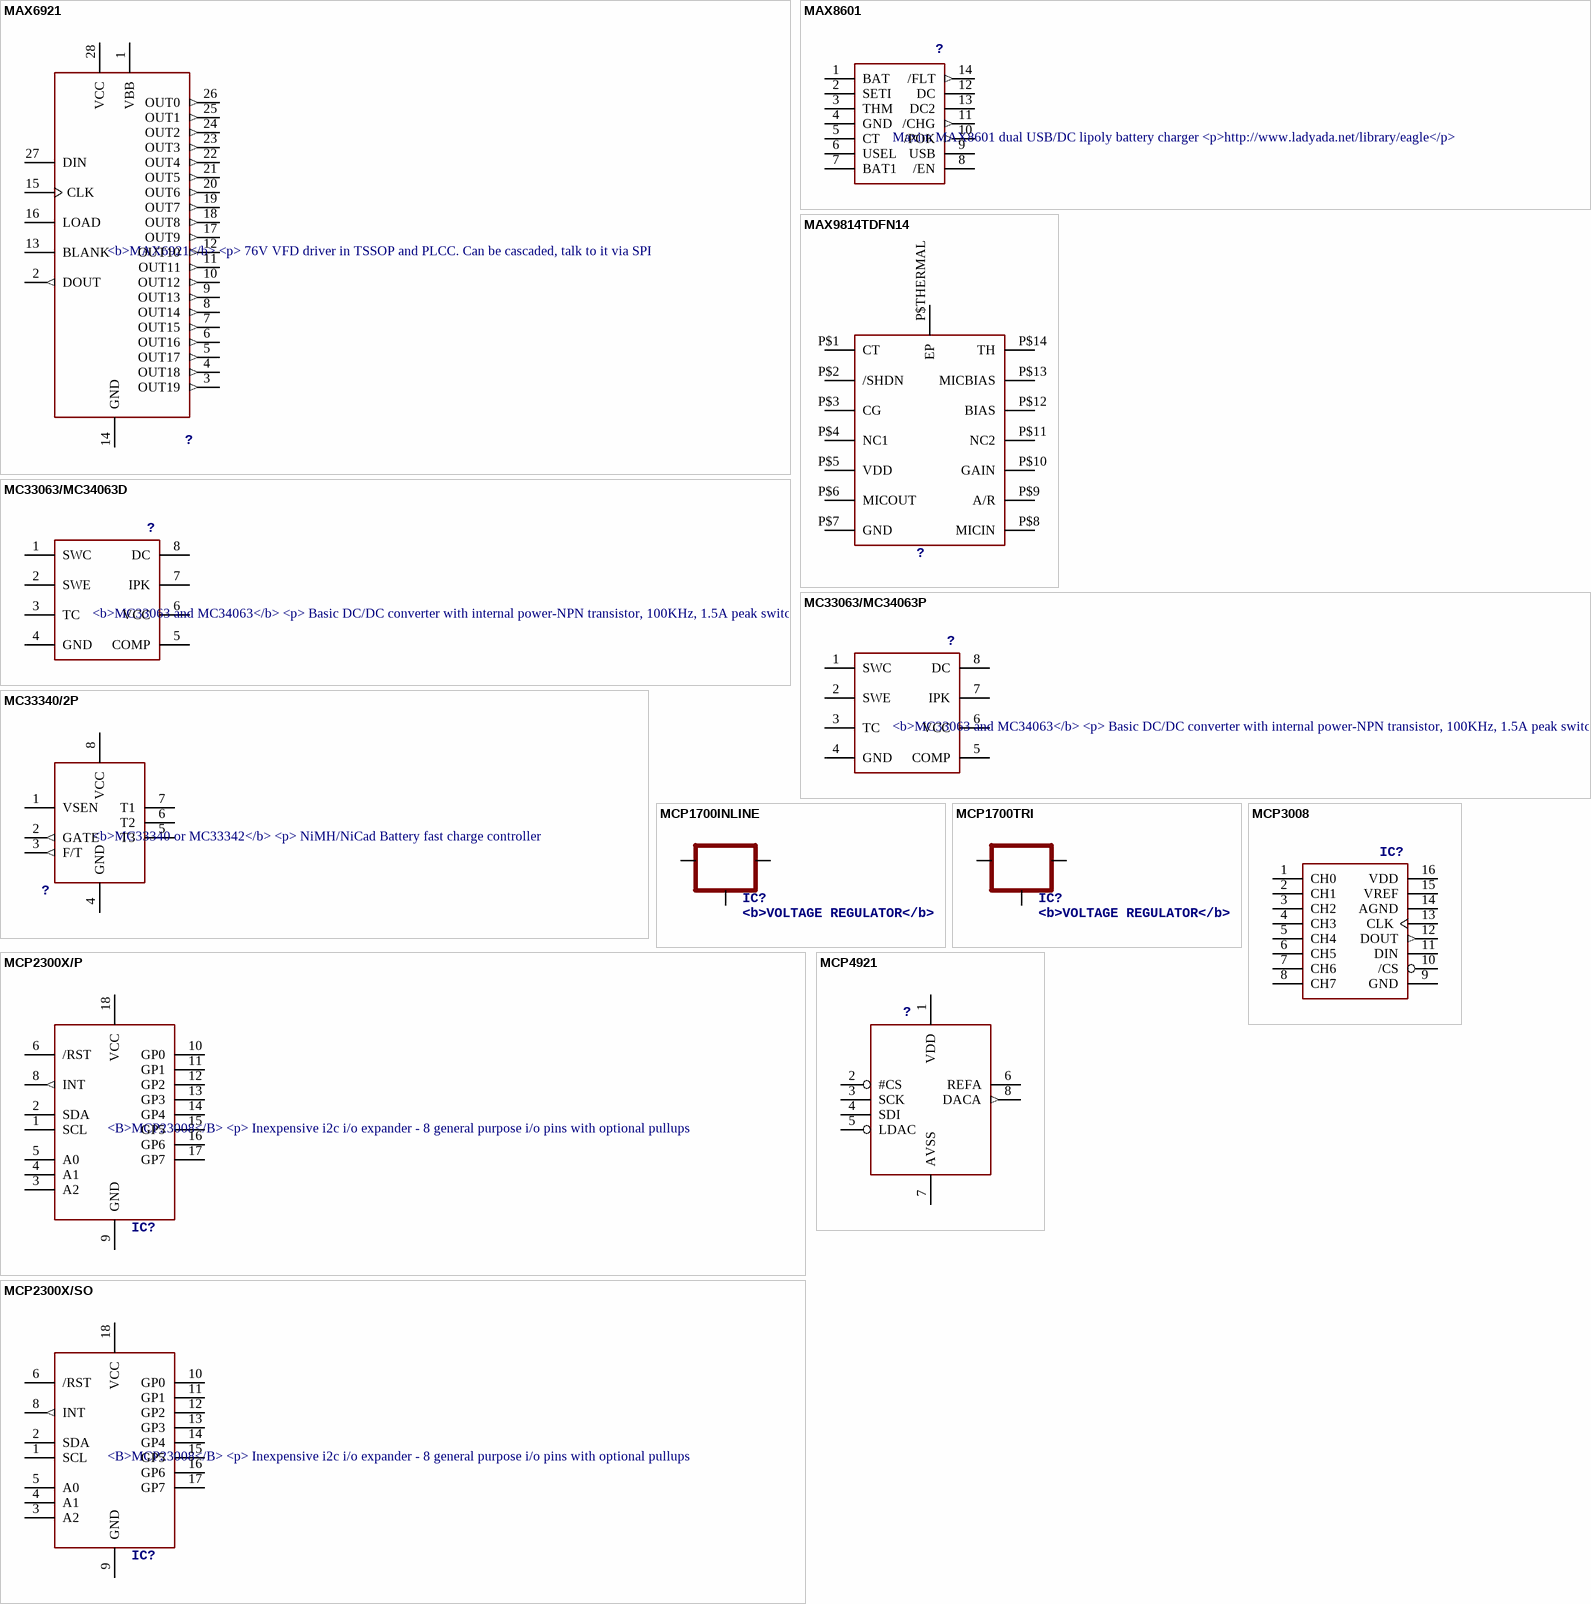
[diagram p21: symbols MAX6921 to MCP4921]

## MAX6921
designator ?, comment <b>MAX6921</b> / <p> / 76V VFD driver in TSSOP and PLCC. Can be cascaded, talk to it via SPI
footprint PLCC-S28
pins: 1 VBB (oe), 2 DOUT (out), 3 OUT19 (out), 4 OUT18 (out), 5 OUT17 (out), 6 OUT16 (out), 7 OUT15 (out), 8 OUT14 (out), 9 OUT13 (out), 10 OUT12 (out), 11 OUT11 (out), 12 OUT10 (out), 13 BLANK, 14 GND (oe), 15 CLK, 16 LOAD, 17 OUT9 (out), 18 OUT8 (out), 19 OUT7 (out), 20 OUT6 (out), 21 OUT5 (out), 22 OUT4 (out), 23 OUT3 (out), 24 OUT2 (out), 25 OUT1 (out), 26 OUT0 (out), 27 DIN, 28 VCC (power)

## MAX8601
designator ?, comment Maxim MAX8601 dual USB/DC lipoly battery charger / <p>http://www.ladyada.net/library/eagle</p>
footprint TDFN14
pins: 1 BAT, 2 SETI, 3 THM, 4 GND (power), 5 CT, 6 USEL, 7 BAT1, 8 /EN, 9 USB, 10 /POK (out), 11 /CHG (out), 12 DC, 13 DC2, 14 /FLT (out)

## MAX9814TDFN14
designator ?
footprint TDFN14_3X3MM
pins: P$1 CT, P$2 /SHDN, P$3 CG, P$4 NC1, P$5 VDD, P$6 MICOUT, P$7 GND, P$8 MICIN, P$9 A/R, P$10 GAIN, P$11 NC2, P$12 BIAS, P$13 MICBIAS, P$14 TH, P$THERMAL EP

## MC33063/MC34063D
designator ?, comment <b>MC33063 and MC34063</b> / <p> / Basic DC/DC converter with internal power-NPN transistor, 100KHz, 1.5A peak switch current. 3-40 input/output.
footprint SO08
pins: 1 SWC, 2 SWE, 3 TC, 4 GND (power), 5 COMP, 6 VCC (power), 7 IPK, 8 DC

## MC33063/MC34063P
designator ?, comment <b>MC33063 and MC34063</b> / <p> / Basic DC/DC converter with internal power-NPN transistor, 100KHz, 1.5A peak switch current. 3-40 input/output.
footprint DIL08
pins: 1 SWC, 2 SWE, 3 TC, 4 GND (power), 5 COMP, 6 VCC (power), 7 IPK, 8 DC

## MC33340/2P
designator ?, comment <b>MC33340 or MC33342</b> / <p> / NiMH/NiCad Battery fast charge controller
footprint DIL08
pins: 1 VSEN, 2 GATE (out), 3 F/T (out), 4 GND (power), 5 T3, 6 T2, 7 T1, 8 VCC (power)

## MCP1700INLINE
designator IC?, comment <b>VOLTAGE REGULATOR</b>
footprint TO92-INLINE
pins: 1 GND, 2 IN, 3 OUT

## MCP1700TRI
designator IC?, comment <b>VOLTAGE REGULATOR</b>
footprint TO92
pins: 1 GND, 2 IN, 3 OUT

## MCP2300X/P
designator IC?, comment <B>MCP23008</B> / <p> / Inexpensive i2c i/o expander - 8 general purpose i/o pins with optional pullups
footprint DIL18
pins: 1 SCL, 2 SDA, 3 A2, 4 A1, 5 A0, 6 /RST, 8 INT (out), 9 GND (power), 10 GP0, 11 GP1, 12 GP2, 13 GP3, 14 GP4, 15 GP5, 16 GP6, 17 GP7, 18 VCC (power)

## MCP2300X/SO
designator IC?, comment <B>MCP23008</B> / <p> / Inexpensive i2c i/o expander - 8 general purpose i/o pins with optional pullups
footprint SO18W
pins: 1 SCL, 2 SDA, 3 A2, 4 A1, 5 A0, 6 /RST, 8 INT (out), 9 GND (power), 10 GP0, 11 GP1, 12 GP2, 13 GP3, 14 GP4, 15 GP5, 16 GP6, 17 GP7, 18 VCC (power)

## MCP3008
designator IC?
footprint DIL16
pins: 1 CH0, 2 CH1, 3 CH2, 4 CH3, 5 CH4, 6 CH5, 7 CH6, 8 CH7, 9 GND (power), 10 /CS, 11 DIN, 12 DOUT (out), 13 CLK, 14 AGND (power), 15 VREF, 16 VDD (power)

## MCP4921
designator ?
footprint DIL08
pins: 1 VDD (oe), 2 #CS, 3 SCK, 4 SDI, 5 LDAC, 6 REFA, 7 AVSS (oe), 8 DACA (out)

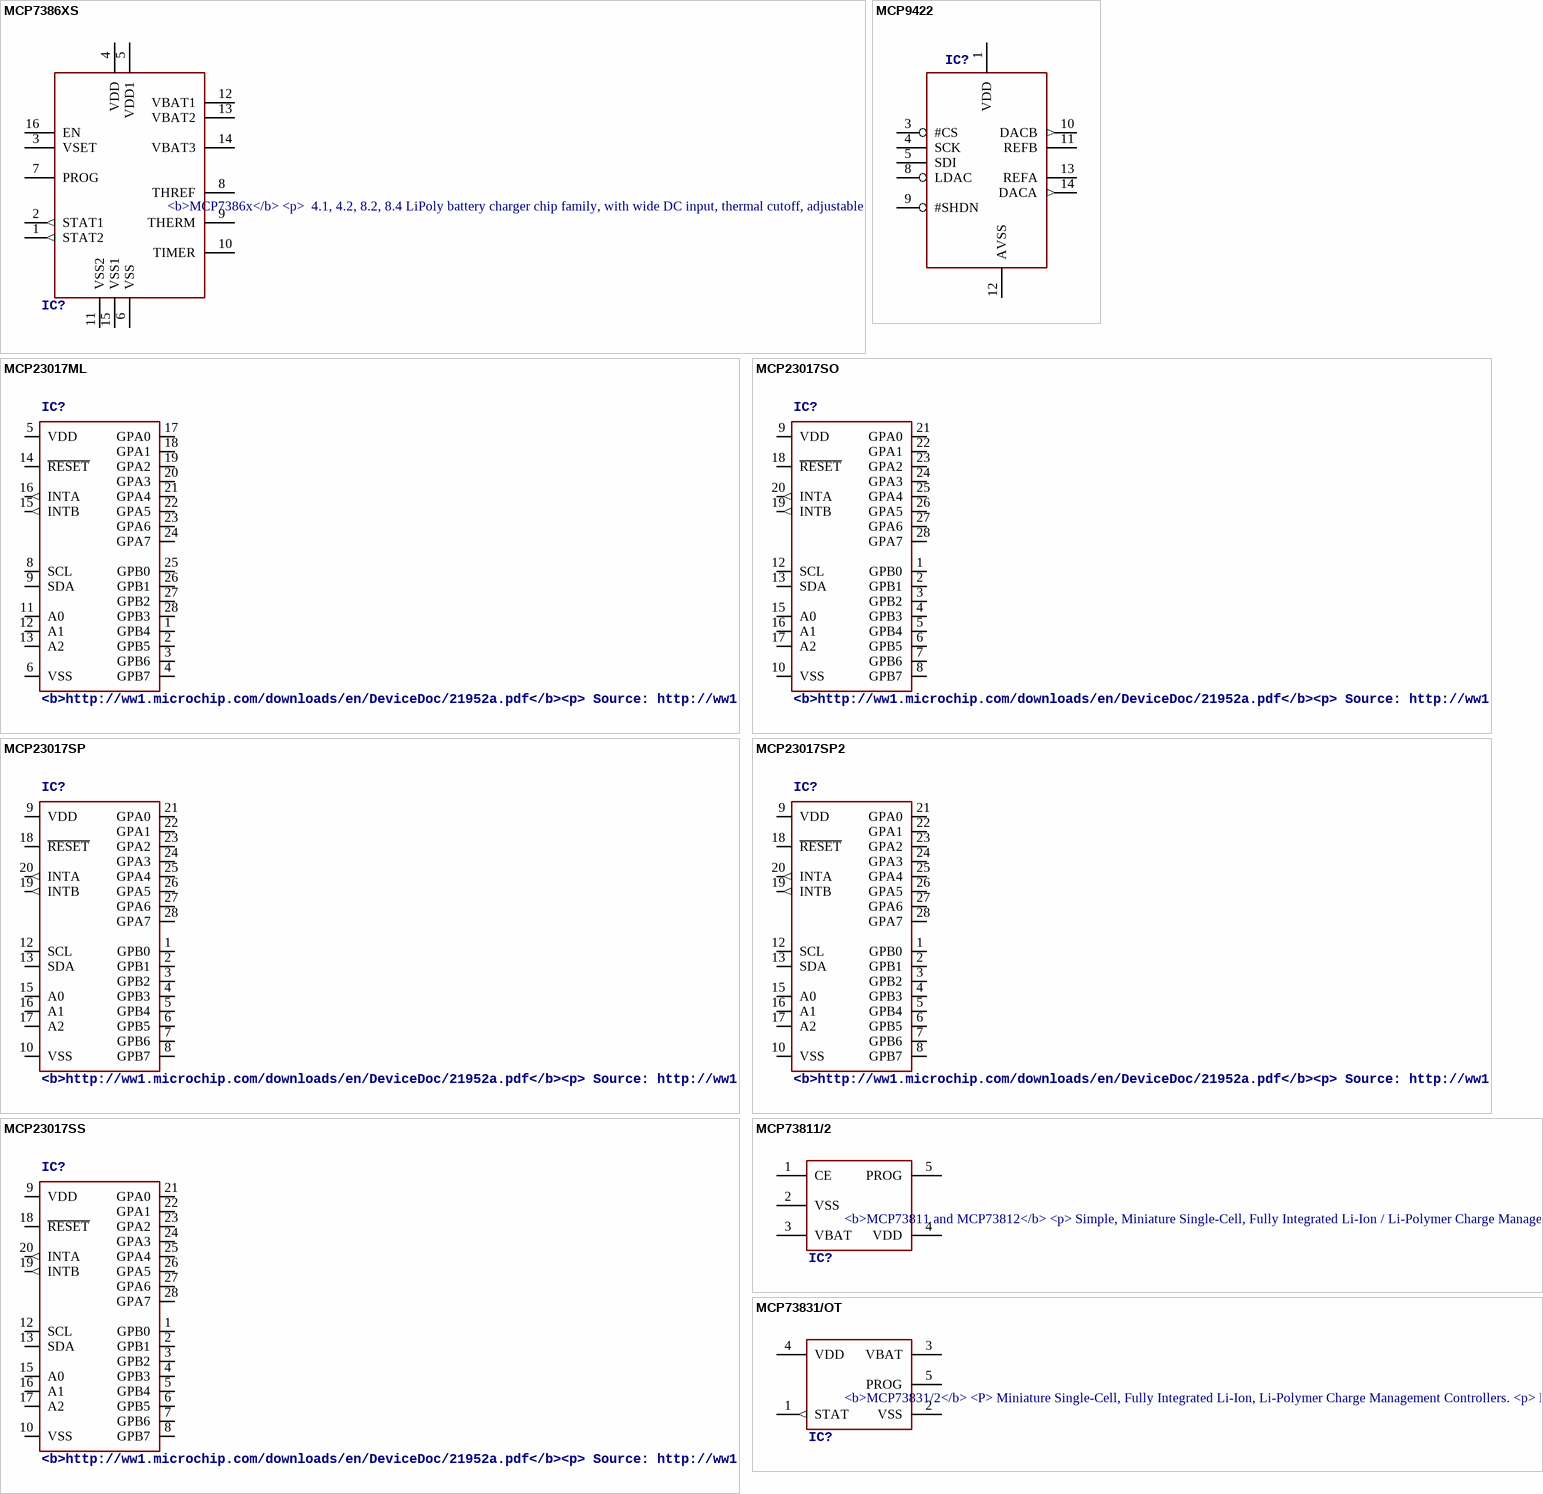
[diagram p22: symbols MCP7386XS to MCP73831/OT]

## MCP7386XS
designator IC?, comment <b>MCP7386x</b> / <p> / 4.1, 4.2, 8.2, 8.4 LiPoly battery charger chip family, with wide DC input, thermal cutoff, adjustable curret, and indicator LEDs
footprint SO16
pins: 1 STAT2 (out), 2 STAT1 (out), 3 VSET, 4 VDD (power), 5 VDD1 (power), 6 VSS (power), 7 PROG, 8 THREF, 9 THERM, 10 TIMER, 11 VSS2 (power), 12 VBAT1, 13 VBAT2, 14 VBAT3, 15 VSS1 (power), 16 EN

## MCP9422
designator IC?
footprint DIL14
pins: 1 VDD (oe), 3 #CS, 4 SCK, 5 SDI, 8 LDAC, 9 #SHDN, 10 DACB (out), 11 REFB, 12 AVSS (oe), 13 REFA, 14 DACA (out)

## MCP23017ML
designator IC?, comment <b>http://ww1.microchip.com/downloads/en/DeviceDoc/21952a.pdf</b><p> / Source: http://ww1.microchip.com/downloads/en/DeviceDoc/21952a.pdf
footprint QFN28-ML_6X6MM
pins: 1 GPB4, 2 GPB5, 3 GPB6, 4 GPB7, 5 VDD (power), 6 VSS (power), 8 SCL, 9 SDA, 11 A0, 12 A1, 13 A2, 14 ~{RESET}, 15 INTB (out), 16 INTA (out), 17 GPA0, 18 GPA1, 19 GPA2, 20 GPA3, 21 GPA4, 22 GPA5, 23 GPA6, 24 GPA7, 25 GPB0, 26 GPB1, 27 GPB2, 28 GPB3

## MCP23017SO
designator IC?, comment <b>http://ww1.microchip.com/downloads/en/DeviceDoc/21952a.pdf</b><p> / Source: http://ww1.microchip.com/downloads/en/DeviceDoc/21952a.pdf
footprint SO28W
pins: 1 GPB0, 2 GPB1, 3 GPB2, 4 GPB3, 5 GPB4, 6 GPB5, 7 GPB6, 8 GPB7, 9 VDD (power), 10 VSS (power), 12 SCL, 13 SDA, 15 A0, 16 A1, 17 A2, 18 ~{RESET}, 19 INTB (out), 20 INTA (out), 21 GPA0, 22 GPA1, 23 GPA2, 24 GPA3, 25 GPA4, 26 GPA5, 27 GPA6, 28 GPA7

## MCP23017SP
designator IC?, comment <b>http://ww1.microchip.com/downloads/en/DeviceDoc/21952a.pdf</b><p> / Source: http://ww1.microchip.com/downloads/en/DeviceDoc/21952a.pdf
footprint DIL28-3
pins: 1 GPB0, 2 GPB1, 3 GPB2, 4 GPB3, 5 GPB4, 6 GPB5, 7 GPB6, 8 GPB7, 9 VDD (power), 10 VSS (power), 12 SCL, 13 SDA, 15 A0, 16 A1, 17 A2, 18 ~{RESET}, 19 INTB (out), 20 INTA (out), 21 GPA0, 22 GPA1, 23 GPA2, 24 GPA3, 25 GPA4, 26 GPA5, 27 GPA6, 28 GPA7

## MCP23017SP2
designator IC?, comment <b>http://ww1.microchip.com/downloads/en/DeviceDoc/21952a.pdf</b><p> / Source: http://ww1.microchip.com/downloads/en/DeviceDoc/21952a.pdf
footprint DIL28-3-ROUND
pins: 1 GPB0, 2 GPB1, 3 GPB2, 4 GPB3, 5 GPB4, 6 GPB5, 7 GPB6, 8 GPB7, 9 VDD (power), 10 VSS (power), 12 SCL, 13 SDA, 15 A0, 16 A1, 17 A2, 18 ~{RESET}, 19 INTB (out), 20 INTA (out), 21 GPA0, 22 GPA1, 23 GPA2, 24 GPA3, 25 GPA4, 26 GPA5, 27 GPA6, 28 GPA7

## MCP23017SS
designator IC?, comment <b>http://ww1.microchip.com/downloads/en/DeviceDoc/21952a.pdf</b><p> / Source: http://ww1.microchip.com/downloads/en/DeviceDoc/21952a.pdf
footprint SSOP28
pins: 1 GPB0, 2 GPB1, 3 GPB2, 4 GPB3, 5 GPB4, 6 GPB5, 7 GPB6, 8 GPB7, 9 VDD (power), 10 VSS (power), 12 SCL, 13 SDA, 15 A0, 16 A1, 17 A2, 18 ~{RESET}, 19 INTB (out), 20 INTA (out), 21 GPA0, 22 GPA1, 23 GPA2, 24 GPA3, 25 GPA4, 26 GPA5, 27 GPA6, 28 GPA7

## MCP73811/2
designator IC?, comment <b>MCP73811 and MCP73812</b> / <p> / Simple, Miniature Single-Cell, Fully Integrated Li-Ion / Li-Polymer Charge Management Controllers / <br> / SOT-23-5 package, no indicator LED but with adjustable current, small and very inexpensive
footprint SOT23-5L
pins: 1 CE, 2 VSS (power), 3 VBAT, 4 VDD (power), 5 PROG

## MCP73831/OT
designator IC?, comment <b>MCP73831/2</b> / <P> / Miniature Single-Cell, Fully Integrated Li-Ion, / Li-Polymer Charge Management Controllers. / <p> / Nice and small simple lipoly charge controller, with adjustable current and status output (LED) / <p> / http://www.ladyada.net/library/pcb/eaglelibrary.html
footprint SOT23-5L
pins: 1 STAT (out), 2 VSS (power), 3 VBAT, 4 VDD (power), 5 PROG

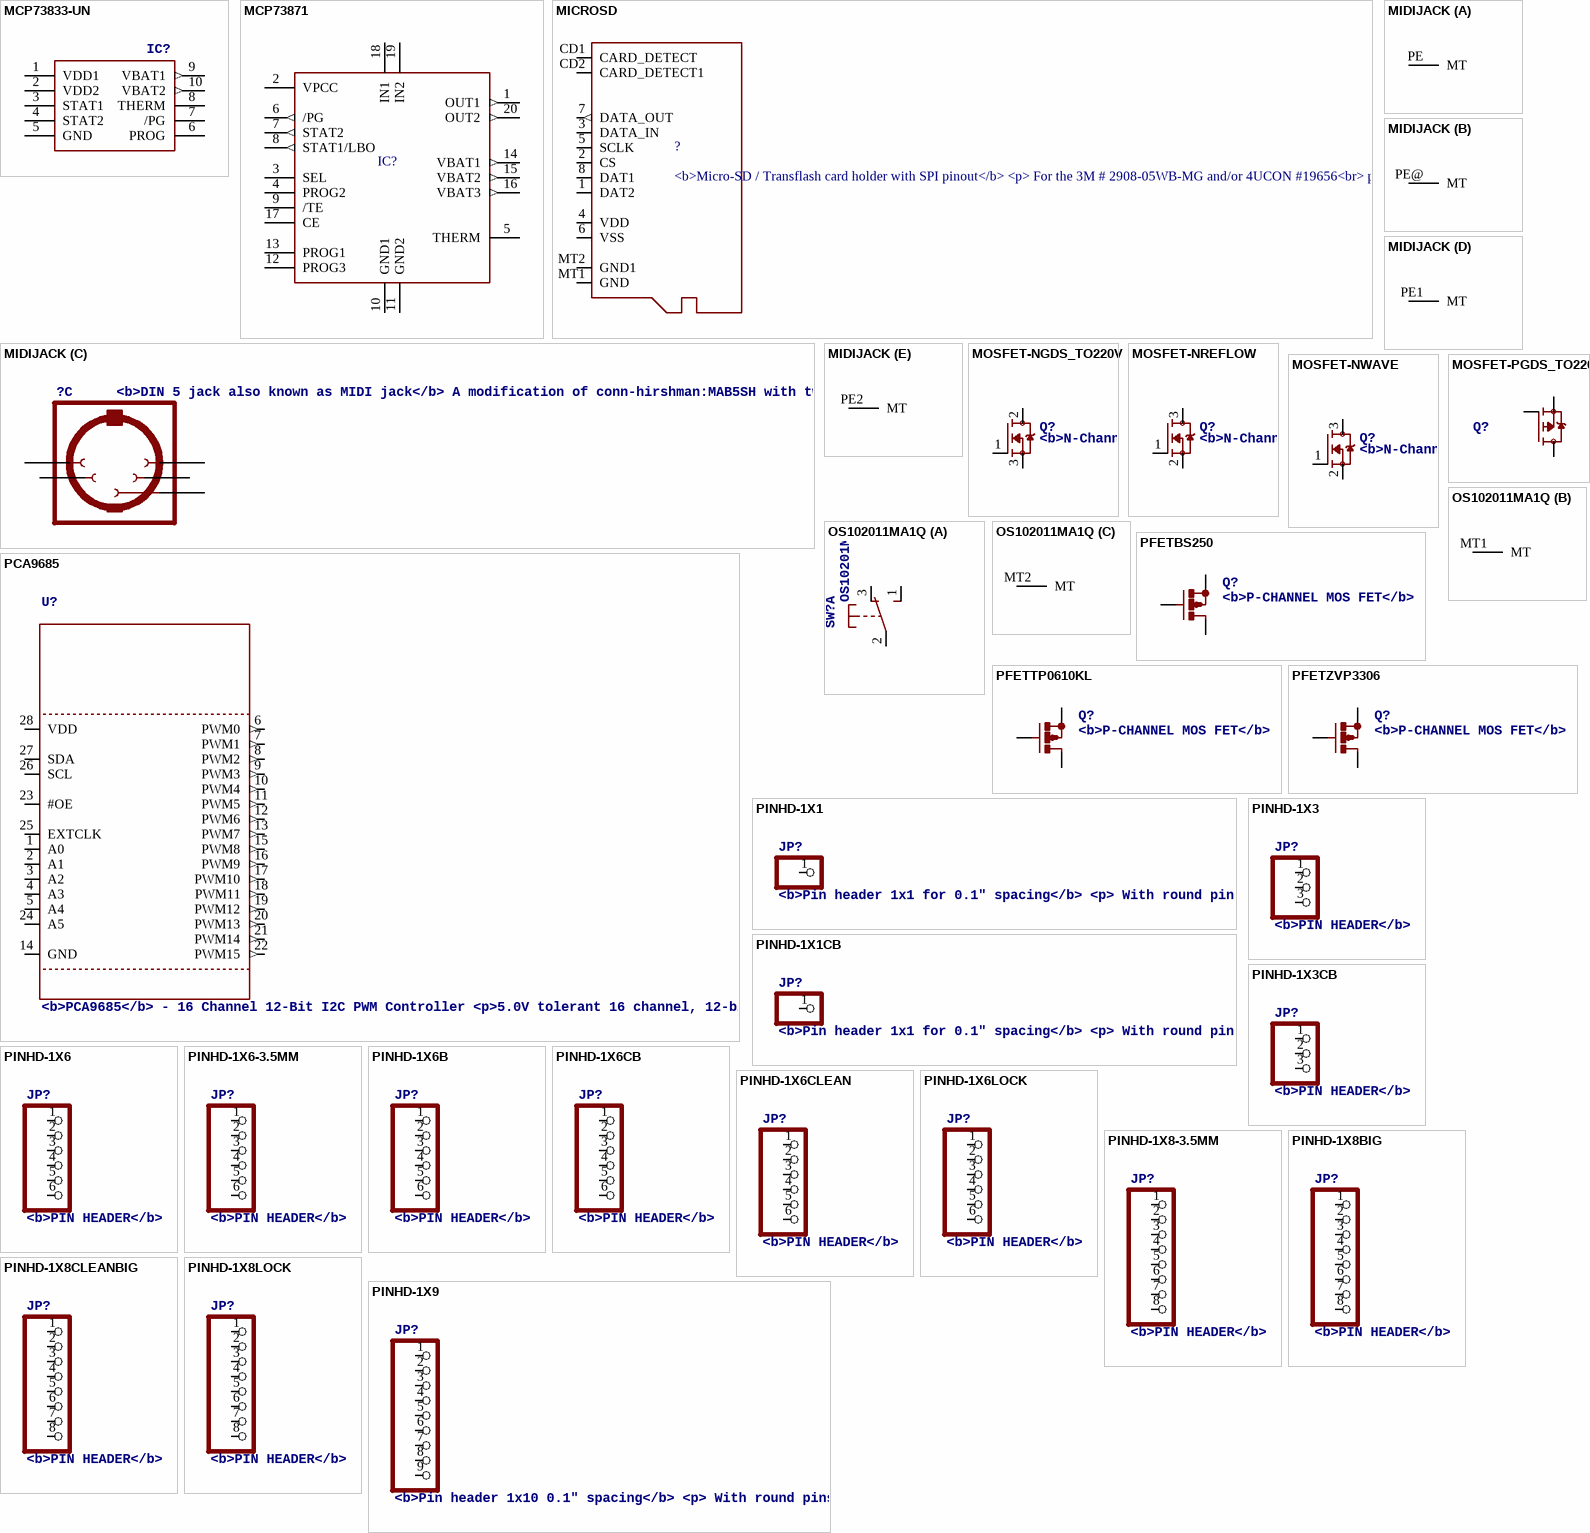
[diagram p23: symbols MCP73833-UN to PINHD-1X9]

## MCP73833-UN
designator IC?
footprint MSOP10
pins: 1 VDD1 (power), 2 VDD2 (power), 3 STAT1, 4 STAT2, 5 GND (power), 6 PROG, 7 /PG, 8 THERM, 9 VBAT1 (out), 10 VBAT2 (out)

## MCP73871
designator IC?
footprint QFN20
pins: 1 OUT1 (out), 2 VPCC, 3 SEL, 4 PROG2, 5 THERM, 6 /PG (out), 7 STAT2 (out), 8 STAT1/LBO (out), 9 /TE, 10 GND1 (power), 11 GND2 (power), 12 PROG3, 13 PROG1, 14 VBAT1 (out), 15 VBAT2 (out), 16 VBAT3 (out), 17 CE, 18 IN1, 19 IN2, 20 OUT2 (out)

## MICROSD
designator ?, comment <b>Micro-SD / Transflash card holder with SPI pinout</b> / <p> / For the 3M # 2908-05WB-MG and/or 4UCON #19656<br> / push-push type
footprint MICROSD
pins: 1 DAT2, 2 CS, 3 DATA_IN, 4 VDD (oe), 5 SCLK, 6 VSS (oe), 7 DATA_OUT (out), 8 DAT1, CD1 CARD_DETECT, CD2 CARD_DETECT1, MT1 GND (oe), MT2 GND1 (oe)

## MIDIJACK
designator ?, comment <b>DIN 5 jack also known as MIDI jack</b> / A modification of conn-hirshman:MAB5SH with two options for the grounding 'teeth'
footprint CP-2350
part A pins: PE MT
part B pins: PE@ MT
part C pins: 1, 2, 3, 4, 5
part D pins: PE1 MT
part E pins: PE2 MT

## MOSFET-NGDS_TO220V
designator Q?, comment <b>N-Channel Mosfet</b> / <ul> / <li>2N7002E - 60V 260mA SOT23 [Digikey: 2N7002ET1GOSTR-ND] - <b>REEL</b></li> / <li>BSH103 - 30V 850mA SOT23 [Digikey: 568-5013-1-ND]</li> / </ul>
footprint TO220V
pins: 1 G, 2 D, 3 S

## MOSFET-NREFLOW
designator Q?, comment <b>N-Channel Mosfet</b> / <ul> / <li>2N7002E - 60V 260mA SOT23 [Digikey: 2N7002ET1GOSTR-ND] - <b>REEL</b></li> / <li>BSH103 - 30V 850mA SOT23 [Digikey: 568-5013-1-ND]</li> / </ul>
footprint SOT23
pins: 1 G, 2 S, 3 D

## MOSFET-NWAVE
designator Q?, comment <b>N-Channel Mosfet</b> / <ul> / <li>2N7002E - 60V 260mA SOT23 [Digikey: 2N7002ET1GOSTR-ND] - <b>REEL</b></li> / <li>BSH103 - 30V 850mA SOT23 [Digikey: 568-5013-1-ND]</li> / </ul>
footprint SOT23-W
pins: 1 G, 2 S, 3 D

## MOSFET-PGDS_TO220V
designator Q?
footprint TO220V
pins: 1 G, 2 D, 3 S

## OS102011MA1Q
designator SW?, comment OS10201MA1Q through-hole right angle switch / <p>http://www.ladyada.net/library/eagle</p>
footprint OS102011MA1Q
part A pins: 1 S, 2 P, 3 O
part B pins: MT1 MT
part C pins: MT2 MT

## PCA9685
designator U?, comment <b>PCA9685</b> - 16 Channel 12-Bit I2C PWM Controller / <p>5.0V tolerant 16 channel, 12-bit I2C PWM controller with 25mA per output (max. 400mA total)</p> / <p>Digikey: 568-5931-1-ND</p>
footprint TSSOP28
pins: 1 A0, 2 A1, 3 A2, 4 A3, 5 A4, 6 PWM0 (out), 7 PWM1 (out), 8 PWM2 (out), 9 PWM3 (out), 10 PWM4 (out), 11 PWM5 (out), 12 PWM6 (out), 13 PWM7 (out), 14 GND (power), 15 PWM8 (out), 16 PWM9 (out), 17 PWM10 (out), 18 PWM11 (out), 19 PWM12 (out), 20 PWM13 (out), 21 PWM14 (out), 22 PWM15 (out), 23 #OE, 24 A5, 25 EXTCLK, 26 SCL, 27 SDA, 28 VDD (power)

## PFETBS250
designator Q?, comment <b>P-CHANNEL MOS FET</b>
footprint TO92-OVAL
pins: 1 D, 2 G, 3 S

## PFETTP0610KL
designator Q?, comment <b>P-CHANNEL MOS FET</b>
footprint TO92-OVAL
pins: 1 S, 2 G, 3 D

## PFETZVP3306
designator Q?, comment <b>P-CHANNEL MOS FET</b>
footprint TO92-OVAL
pins: 1 S, 2 G, 3 D

## PINHD-1X1
designator JP?, comment <b>Pin header 1x1 for 0.1" spacing</b> / <p> / With round pins
footprint 1X01
pins: 1

## PINHD-1X1CB
designator JP?, comment <b>Pin header 1x1 for 0.1" spacing</b> / <p> / With round pins
footprint 1X01-CLEANBIG
pins: 1

## PINHD-1X3
designator JP?, comment <b>PIN HEADER</b>
footprint 1X03
pins: 1, 2, 3

## PINHD-1X3CB
designator JP?, comment <b>PIN HEADER</b>
footprint 1X03-CLEANBIG
pins: 1, 2, 3

## PINHD-1X6
designator JP?, comment <b>PIN HEADER</b>
footprint 1X06
pins: 1, 2, 3, 4, 5, 6

## PINHD-1X6-3.5MM
designator JP?, comment <b>PIN HEADER</b>
footprint 1X06-3.5MM
pins: 1, 2, 3, 4, 5, 6

## PINHD-1X6B
designator JP?, comment <b>PIN HEADER</b>
footprint 1X06-BIG
pins: 1, 2, 3, 4, 5, 6

## PINHD-1X6CB
designator JP?, comment <b>PIN HEADER</b>
footprint 1X06-CLEANBIG
pins: 1, 2, 3, 4, 5, 6

## PINHD-1X6CLEAN
designator JP?, comment <b>PIN HEADER</b>
footprint 1X06-CLEAN
pins: 1, 2, 3, 4, 5, 6

## PINHD-1X6LOCK
designator JP?, comment <b>PIN HEADER</b>
footprint 1X06-BIGLOCK
pins: 1, 2, 3, 4, 5, 6

## PINHD-1X8-3.5MM
designator JP?, comment <b>PIN HEADER</b>
footprint 1X08-3.5MM
pins: 1, 2, 3, 4, 5, 6, 7, 8

## PINHD-1X8BIG
designator JP?, comment <b>PIN HEADER</b>
footprint 1X08-BIG
pins: 1, 2, 3, 4, 5, 6, 7, 8

## PINHD-1X8CLEANBIG
designator JP?, comment <b>PIN HEADER</b>
footprint 1X08-CLEANBIG
pins: 1, 2, 3, 4, 5, 6, 7, 8

## PINHD-1X8LOCK
designator JP?, comment <b>PIN HEADER</b>
footprint 1X08-LOCK
pins: 1, 2, 3, 4, 5, 6, 7, 8

## PINHD-1X9
designator JP?, comment <b>Pin header 1x10 0.1" spacing</b> / <p> / With round pins
footprint 1X09-BIG
pins: 1, 2, 3, 4, 5, 6, 7, 8, 9

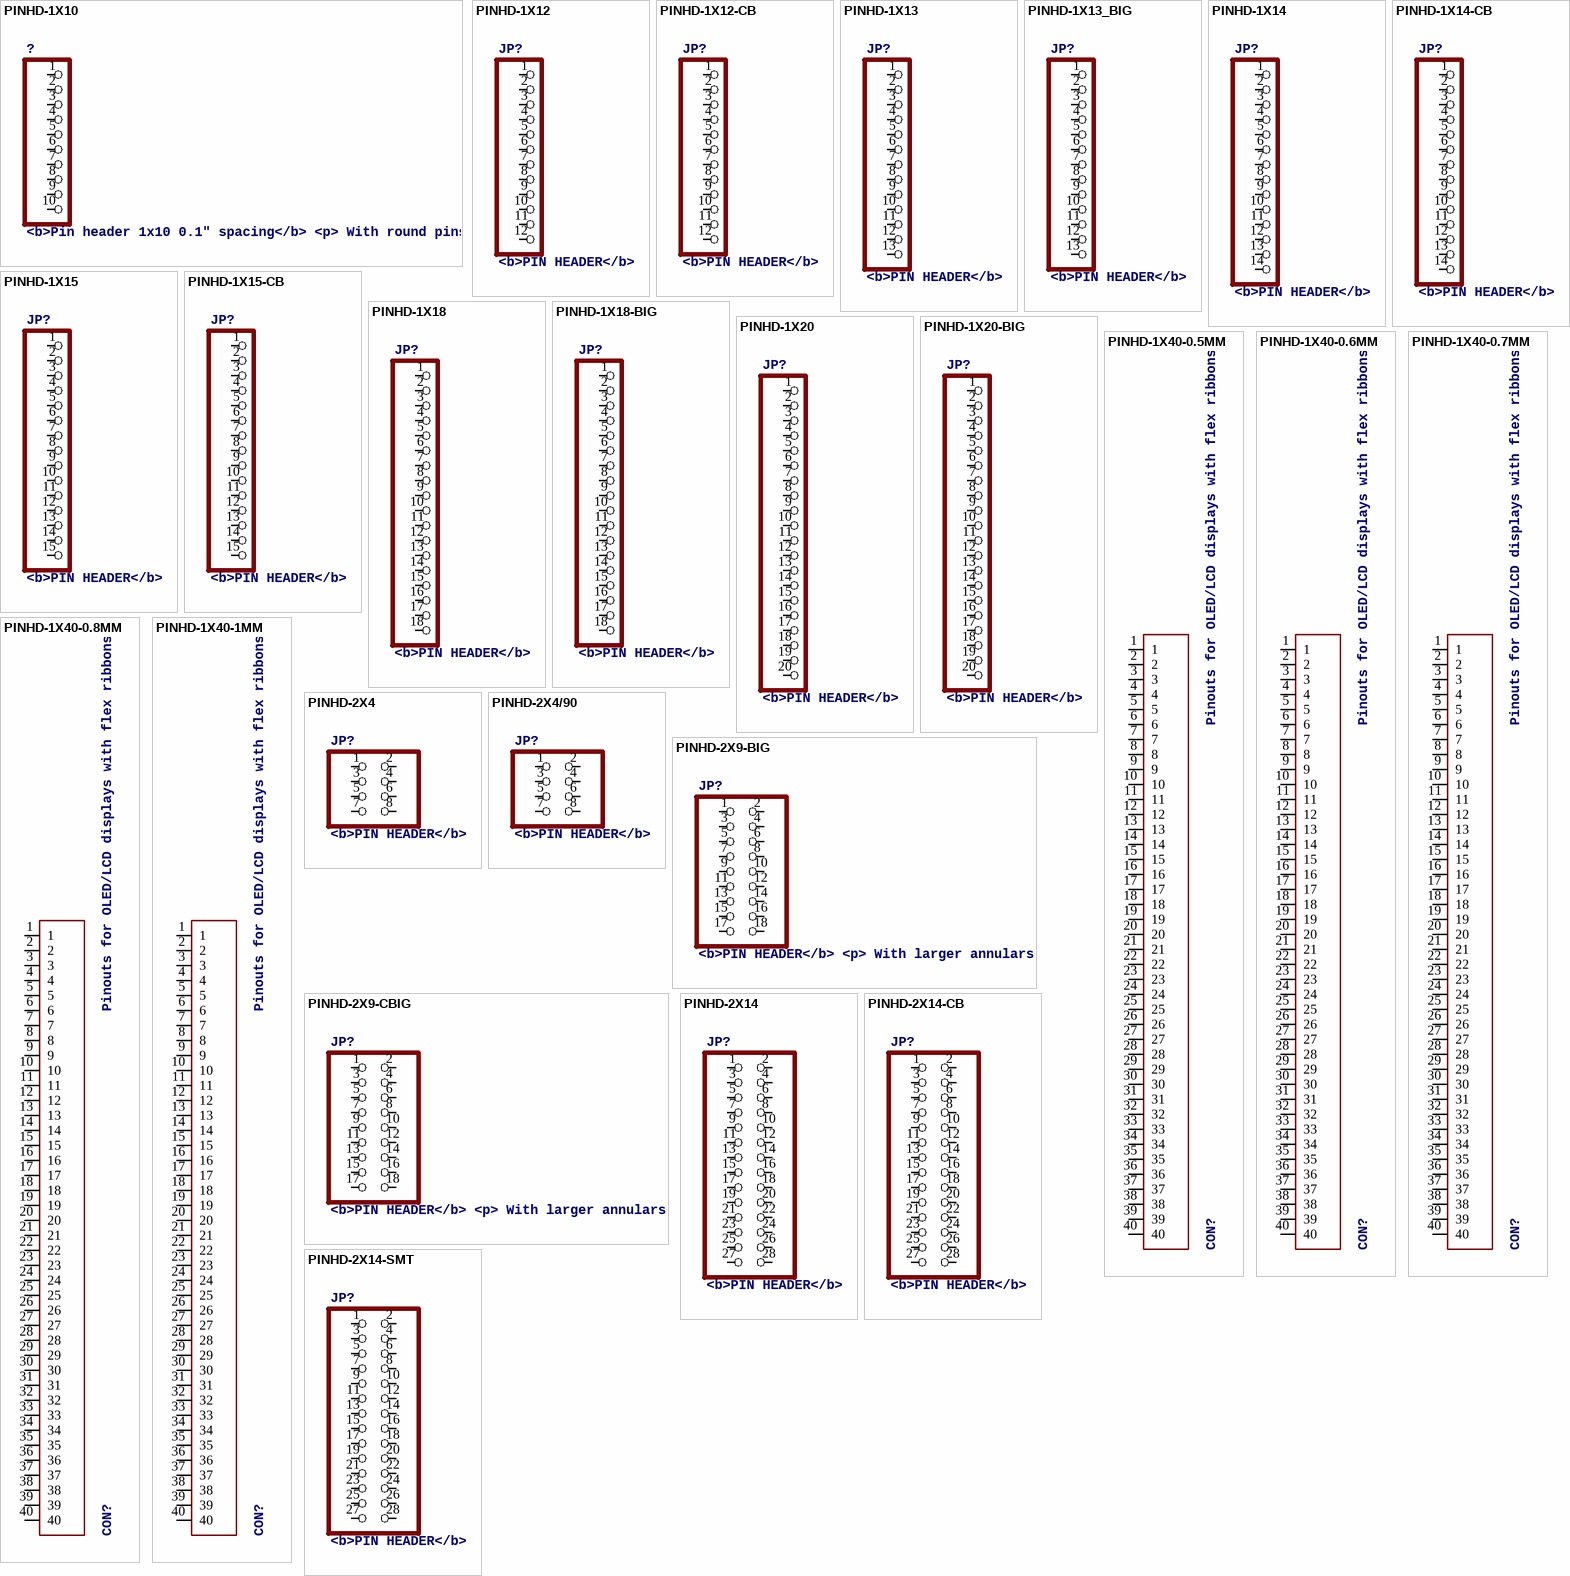
[diagram p24: symbols PINHD-1X10 to PINHD-2X14-SMT]

## PINHD-1X10
designator ?, comment <b>Pin header 1x10 0.1" spacing</b> / <p> / With round pins
footprint 1X10-BIG
pins: 1, 2, 3, 4, 5, 6, 7, 8, 9, 10

## PINHD-1X12
designator JP?, comment <b>PIN HEADER</b>
footprint 1X12
pins: 1, 2, 3, 4, 5, 6, 7, 8, 9, 10, 11, 12

## PINHD-1X12-CB
designator JP?, comment <b>PIN HEADER</b>
footprint 1X12-CB
pins: 1, 2, 3, 4, 5, 6, 7, 8, 9, 10, 11, 12

## PINHD-1X13
designator JP?, comment <b>PIN HEADER</b>
footprint 1X13
pins: 1, 2, 3, 4, 5, 6, 7, 8, 9, 10, 11, 12, 13

## PINHD-1X13_BIG
designator JP?, comment <b>PIN HEADER</b>
footprint 1X13-BIG
pins: 1, 2, 3, 4, 5, 6, 7, 8, 9, 10, 11, 12, 13

## PINHD-1X14
designator JP?, comment <b>PIN HEADER</b>
footprint 1X14
pins: 1, 2, 3, 4, 5, 6, 7, 8, 9, 10, 11, 12, 13, 14

## PINHD-1X14-CB
designator JP?, comment <b>PIN HEADER</b>
footprint 1X14-CB
pins: 1, 2, 3, 4, 5, 6, 7, 8, 9, 10, 11, 12, 13, 14

## PINHD-1X15
designator JP?, comment <b>PIN HEADER</b>
footprint 1X15
pins: 1, 2, 3, 4, 5, 6, 7, 8, 9, 10, 11, 12, 13, 14, 15

## PINHD-1X15-CB
designator JP?, comment <b>PIN HEADER</b>
footprint 1X15-CB
pins: 1, 2, 3, 4, 5, 6, 7, 8, 9, 10, 11, 12, 13, 14, 15

## PINHD-1X18
designator JP?, comment <b>PIN HEADER</b>
footprint 1X18
pins: 1, 2, 3, 4, 5, 6, 7, 8, 9, 10, 11, 12, 13, 14, 15, 16, 17, 18

## PINHD-1X18-BIG
designator JP?, comment <b>PIN HEADER</b>
footprint 1X18-BIG
pins: 1, 2, 3, 4, 5, 6, 7, 8, 9, 10, 11, 12, 13, 14, 15, 16, 17, 18

## PINHD-1X20
designator JP?, comment <b>PIN HEADER</b>
footprint 1X20
pins: 1, 2, 3, 4, 5, 6, 7, 8, 9, 10, 11, 12, 13, 14, 15, 16, 17, 18, 19, 20

## PINHD-1X20-BIG
designator JP?, comment <b>PIN HEADER</b>
footprint 1X20-BIG
pins: 1, 2, 3, 4, 5, 6, 7, 8, 9, 10, 11, 12, 13, 14, 15, 16, 17, 18, 19, 20

## PINHD-1X40-0.5MM
designator CON?, comment Pinouts for OLED/LCD displays with flex ribbons
footprint 1X40-0.5MM
pins: 1, 2, 3, 4, 5, 6, 7, 8, 9, 10, 11, 12, 13, 14, 15, 16, 17, 18, 19, 20, 21, 22, 23, 24, 25, 26, 27, 28, 29, 30, 31, 32, 33, 34, 35, 36, 37, 38, 39, 40

## PINHD-1X40-0.6MM
designator CON?, comment Pinouts for OLED/LCD displays with flex ribbons
footprint 1X40-0.6MM
pins: 1, 2, 3, 4, 5, 6, 7, 8, 9, 10, 11, 12, 13, 14, 15, 16, 17, 18, 19, 20, 21, 22, 23, 24, 25, 26, 27, 28, 29, 30, 31, 32, 33, 34, 35, 36, 37, 38, 39, 40

## PINHD-1X40-0.7MM
designator CON?, comment Pinouts for OLED/LCD displays with flex ribbons
footprint 1X40-0.7MM
pins: 1, 2, 3, 4, 5, 6, 7, 8, 9, 10, 11, 12, 13, 14, 15, 16, 17, 18, 19, 20, 21, 22, 23, 24, 25, 26, 27, 28, 29, 30, 31, 32, 33, 34, 35, 36, 37, 38, 39, 40

## PINHD-1X40-0.8MM
designator CON?, comment Pinouts for OLED/LCD displays with flex ribbons
footprint 1X40-0.8MM
pins: 1, 2, 3, 4, 5, 6, 7, 8, 9, 10, 11, 12, 13, 14, 15, 16, 17, 18, 19, 20, 21, 22, 23, 24, 25, 26, 27, 28, 29, 30, 31, 32, 33, 34, 35, 36, 37, 38, 39, 40

## PINHD-1X40-1MM
designator CON?, comment Pinouts for OLED/LCD displays with flex ribbons
footprint 1X40-1MM
pins: 1, 2, 3, 4, 5, 6, 7, 8, 9, 10, 11, 12, 13, 14, 15, 16, 17, 18, 19, 20, 21, 22, 23, 24, 25, 26, 27, 28, 29, 30, 31, 32, 33, 34, 35, 36, 37, 38, 39, 40

## PINHD-2X4
designator JP?, comment <b>PIN HEADER</b>
footprint 2X04
pins: 1, 2, 3, 4, 5, 6, 7, 8

## PINHD-2X4/90
designator JP?, comment <b>PIN HEADER</b>
footprint 2X04/90
pins: 1, 2, 3, 4, 5, 6, 7, 8

## PINHD-2X9-BIG
designator JP?, comment <b>PIN HEADER</b> / <p> / With larger annulars
footprint 2X09-BIG
pins: 1, 2, 3, 4, 5, 6, 7, 8, 9, 10, 11, 12, 13, 14, 15, 16, 17, 18

## PINHD-2X9-CBIG
designator JP?, comment <b>PIN HEADER</b> / <p> / With larger annulars
footprint 2X09-CLEANBIG
pins: 1, 2, 3, 4, 5, 6, 7, 8, 9, 10, 11, 12, 13, 14, 15, 16, 17, 18

## PINHD-2X14
designator JP?, comment <b>PIN HEADER</b>
footprint 2X14
pins: 1, 2, 3, 4, 5, 6, 7, 8, 9, 10, 11, 12, 13, 14, 15, 16, 17, 18, 19, 20, 21, 22, 23, 24, 25, 26, 27, 28

## PINHD-2X14-CB
designator JP?, comment <b>PIN HEADER</b>
footprint 2X14-CLEANBIG
pins: 1, 2, 3, 4, 5, 6, 7, 8, 9, 10, 11, 12, 13, 14, 15, 16, 17, 18, 19, 20, 21, 22, 23, 24, 25, 26, 27, 28

## PINHD-2X14-SMT
designator JP?, comment <b>PIN HEADER</b>
footprint 2X14-SMT
pins: 1, 2, 3, 4, 5, 6, 7, 8, 9, 10, 11, 12, 13, 14, 15, 16, 17, 18, 19, 20, 21, 22, 23, 24, 25, 26, 27, 28

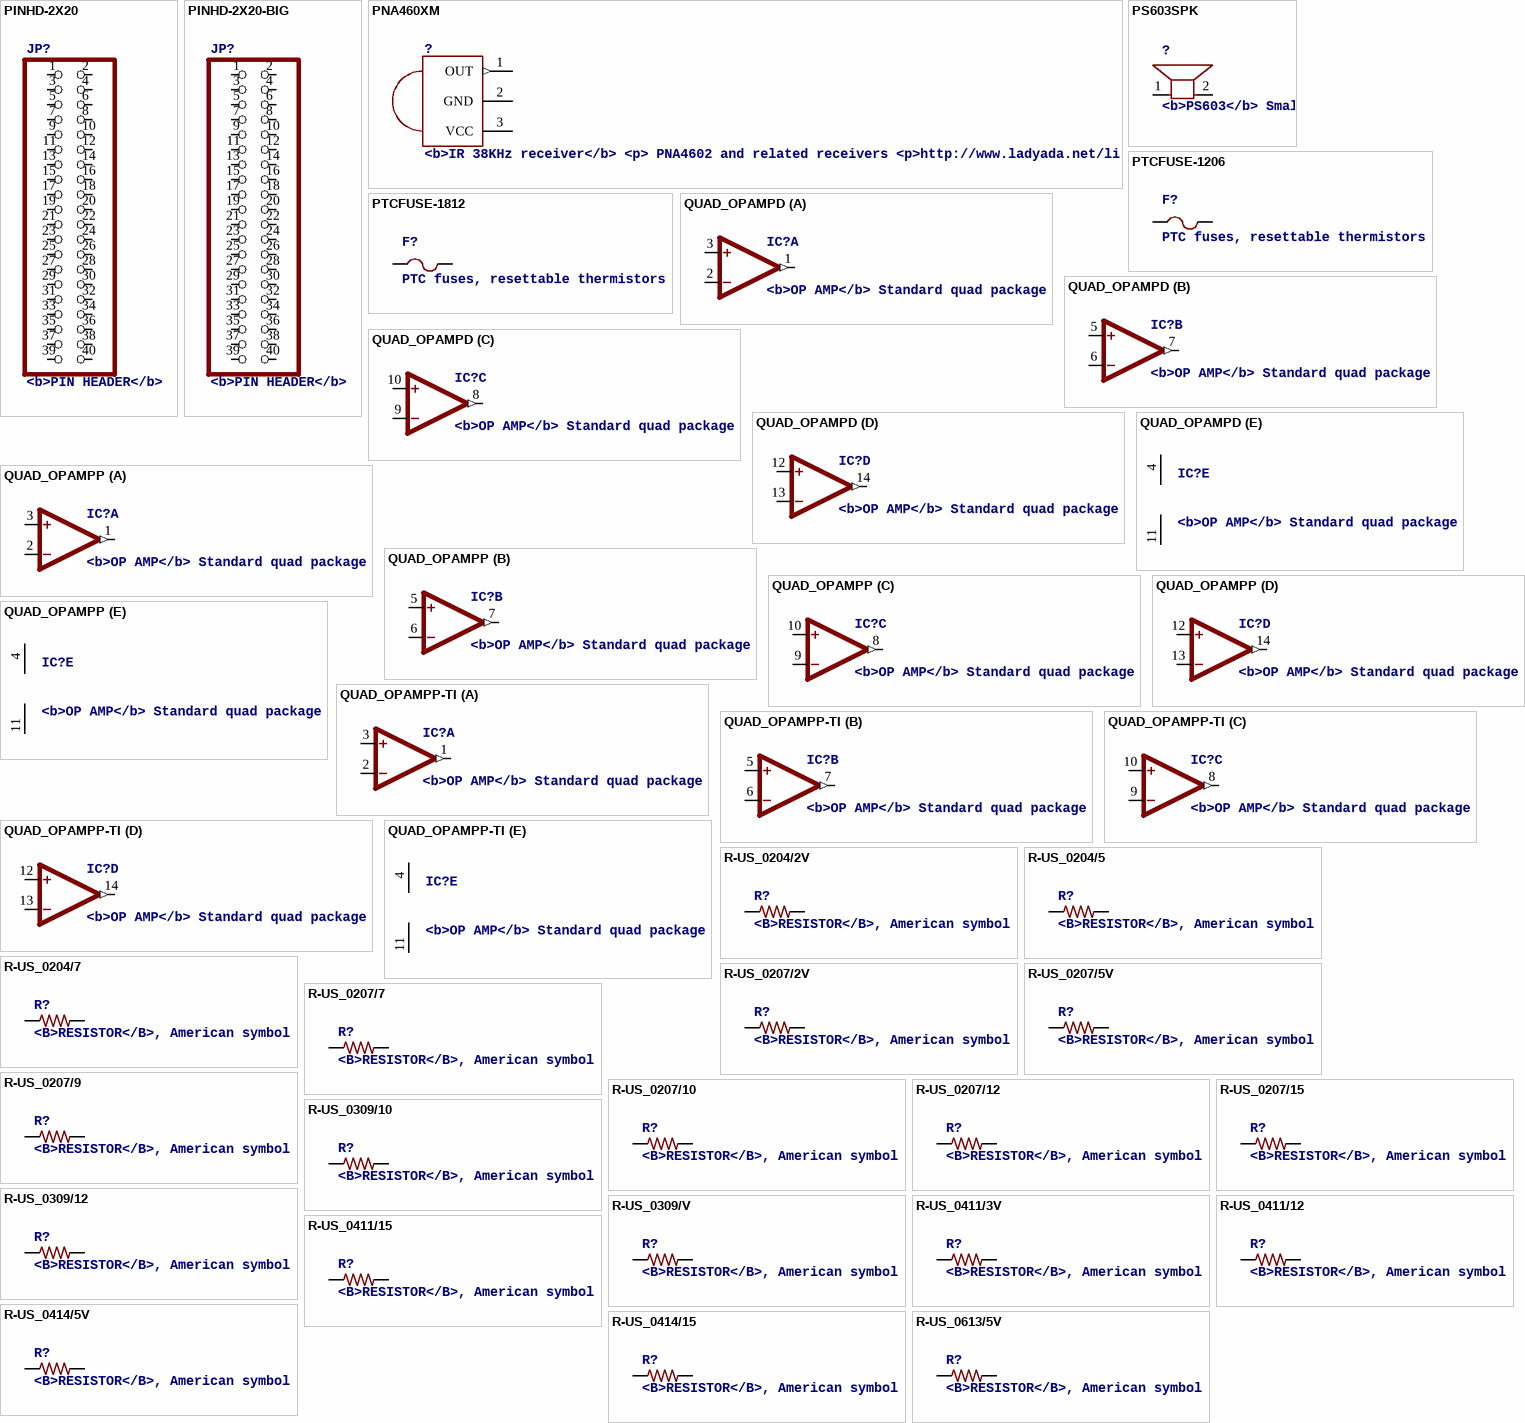
[diagram p25: symbols PINHD-2X20 to R-US_0613/5V]

## PINHD-2X20
designator JP?, comment <b>PIN HEADER</b>
footprint 2X20
pins: 1, 2, 3, 4, 5, 6, 7, 8, 9, 10, 11, 12, 13, 14, 15, 16, 17, 18, 19, 20, 21, 22, 23, 24, 25, 26, 27, 28, 29, 30, 31, 32, 33, 34, 35, 36, 37, 38, 39, 40

## PINHD-2X20-BIG
designator JP?, comment <b>PIN HEADER</b>
footprint 2X20-BIG
pins: 1, 2, 3, 4, 5, 6, 7, 8, 9, 10, 11, 12, 13, 14, 15, 16, 17, 18, 19, 20, 21, 22, 23, 24, 25, 26, 27, 28, 29, 30, 31, 32, 33, 34, 35, 36, 37, 38, 39, 40

## PNA460XM
designator ?, comment <b>IR 38KHz receiver</b> / <p> / PNA4602 and related receivers / <p>http://www.ladyada.net/library/pcb/eaglelibrary.html<p>
footprint PNA460XM
pins: 1 OUT (out), 2 GND (power), 3 VCC (power)

## PS603SPK
designator ?, comment <b>PS603</b> / Small 8 ohm speaker, from Mouser. Can SMT solder to board / <p>http://www.ladyada.net/library/pcb/eaglelibrary.html</p>
footprint PS603
pins: 1, 2

## PTCFUSE-1206
designator F?, comment PTC fuses, resettable thermistors
footprint R1206
pins: 1, 2

## PTCFUSE-1812
designator F?, comment PTC fuses, resettable thermistors
footprint 1812
pins: 1, 2

## QUAD_OPAMPD
designator IC?, comment <b>OP AMP</b> / Standard quad package
footprint SO14
part A pins: 1 OUT (out), 2 -IN, 3 +IN
part B pins: 5 +IN, 6 -IN, 7 OUT (out)
part C pins: 8 OUT (out), 9 -IN, 10 +IN
part D pins: 12 +IN, 13 -IN, 14 OUT (out)
part E pins: 4 V+ (power), 11 V- (power)

## QUAD_OPAMPP
designator IC?, comment <b>OP AMP</b> / Standard quad package
footprint DIL14
part A pins: 1 OUT (out), 2 -IN, 3 +IN
part B pins: 5 +IN, 6 -IN, 7 OUT (out)
part C pins: 8 OUT (out), 9 -IN, 10 +IN
part D pins: 12 +IN, 13 -IN, 14 OUT (out)
part E pins: 4 V+ (power), 11 V- (power)

## QUAD_OPAMPP-TI
designator IC?, comment <b>OP AMP</b> / Standard quad package
footprint DIL14-LARDO
part A pins: 1 OUT (out), 2 -IN, 3 +IN
part B pins: 5 +IN, 6 -IN, 7 OUT (out)
part C pins: 8 OUT (out), 9 -IN, 10 +IN
part D pins: 12 +IN, 13 -IN, 14 OUT (out)
part E pins: 4 V+ (power), 11 V- (power)

## R-US_0204/2V
designator R?, comment <B>RESISTOR</B>, American symbol
footprint 0204V
pins: 1, 2

## R-US_0204/5
designator R?, comment <B>RESISTOR</B>, American symbol
footprint 0204/5
pins: 1, 2

## R-US_0204/7
designator R?, comment <B>RESISTOR</B>, American symbol
footprint 0204/7
pins: 1, 2

## R-US_0207/2V
designator R?, comment <B>RESISTOR</B>, American symbol
footprint 0207/2V
pins: 1, 2

## R-US_0207/5V
designator R?, comment <B>RESISTOR</B>, American symbol
footprint 0207/5V
pins: 1, 2

## R-US_0207/7
designator R?, comment <B>RESISTOR</B>, American symbol
footprint 0207/7
pins: 1, 2

## R-US_0207/9
designator R?, comment <B>RESISTOR</B>, American symbol
footprint 0207/9
pins: 1, 2

## R-US_0207/10
designator R?, comment <B>RESISTOR</B>, American symbol
footprint 0207/10
pins: 1, 2

## R-US_0207/12
designator R?, comment <B>RESISTOR</B>, American symbol
footprint 0207/12
pins: 1, 2

## R-US_0207/15
designator R?, comment <B>RESISTOR</B>, American symbol
footprint 0207/15
pins: 1, 2

## R-US_0309/10
designator R?, comment <B>RESISTOR</B>, American symbol
footprint 0309/10
pins: 1, 2

## R-US_0309/12
designator R?, comment <B>RESISTOR</B>, American symbol
footprint 0309/12
pins: 1, 2

## R-US_0309/V
designator R?, comment <B>RESISTOR</B>, American symbol
footprint 0309V
pins: 1, 2

## R-US_0411/3V
designator R?, comment <B>RESISTOR</B>, American symbol
footprint 0411V
pins: 1, 2

## R-US_0411/12
designator R?, comment <B>RESISTOR</B>, American symbol
footprint 0411/12
pins: 1, 2

## R-US_0411/15
designator R?, comment <B>RESISTOR</B>, American symbol
footprint 0411/15
pins: 1, 2

## R-US_0414/5V
designator R?, comment <B>RESISTOR</B>, American symbol
footprint 0414V
pins: 1, 2

## R-US_0414/15
designator R?, comment <B>RESISTOR</B>, American symbol
footprint 0414/15
pins: 1, 2

## R-US_0613/5V
designator R?, comment <B>RESISTOR</B>, American symbol
footprint P0613V
pins: 1, 2

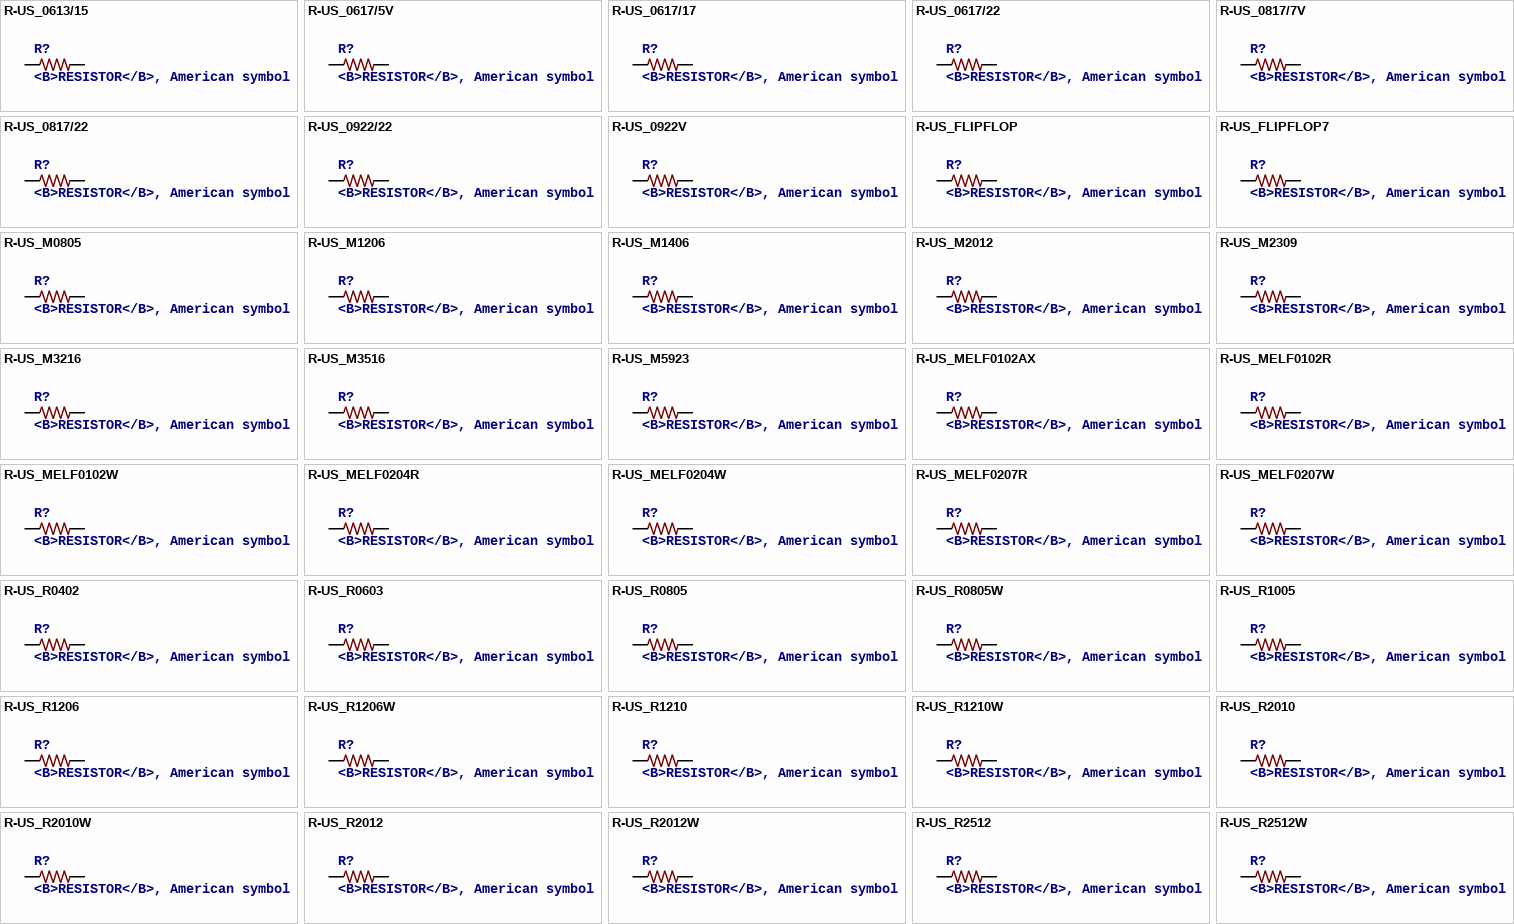
[diagram p26: symbols R-US_0613/15 to R-US_R2512W]

## R-US_0613/15
designator R?, comment <B>RESISTOR</B>, American symbol
footprint P0613/15
pins: 1, 2

## R-US_0617/5V
designator R?, comment <B>RESISTOR</B>, American symbol
footprint 0617V
pins: 1, 2

## R-US_0617/17
designator R?, comment <B>RESISTOR</B>, American symbol
footprint 0617/17
pins: 1, 2

## R-US_0617/22
designator R?, comment <B>RESISTOR</B>, American symbol
footprint 0617/22
pins: 1, 2

## R-US_0817/7V
designator R?, comment <B>RESISTOR</B>, American symbol
footprint P0817V
pins: 1, 2

## R-US_0817/22
designator R?, comment <B>RESISTOR</B>, American symbol
footprint P0817/22
pins: 1, 2

## R-US_0922/22
designator R?, comment <B>RESISTOR</B>, American symbol
footprint 0922/22
pins: 1, 2

## R-US_0922V
designator R?, comment <B>RESISTOR</B>, American symbol
footprint 0922V
pins: 1, 2

## R-US_FLIPFLOP
designator R?, comment <B>RESISTOR</B>, American symbol
footprint 0805-THM
pins: 1, 2

## R-US_FLIPFLOP7
designator R?, comment <B>RESISTOR</B>, American symbol
footprint 0805-THM-7
pins: 1, 2

## R-US_M0805
designator R?, comment <B>RESISTOR</B>, American symbol
footprint M0805
pins: 1, 2

## R-US_M1206
designator R?, comment <B>RESISTOR</B>, American symbol
footprint M1206
pins: 1, 2

## R-US_M1406
designator R?, comment <B>RESISTOR</B>, American symbol
footprint M1406
pins: 1, 2

## R-US_M2012
designator R?, comment <B>RESISTOR</B>, American symbol
footprint M2012
pins: 1, 2

## R-US_M2309
designator R?, comment <B>RESISTOR</B>, American symbol
footprint M2309
pins: 1, 2

## R-US_M3216
designator R?, comment <B>RESISTOR</B>, American symbol
footprint M3216
pins: 1, 2

## R-US_M3516
designator R?, comment <B>RESISTOR</B>, American symbol
footprint M3516
pins: 1, 2

## R-US_M5923
designator R?, comment <B>RESISTOR</B>, American symbol
footprint M5923
pins: 1, 2

## R-US_MELF0102AX
designator R?, comment <B>RESISTOR</B>, American symbol
footprint MINI_MELF-0102AX
pins: 1, 2

## R-US_MELF0102R
designator R?, comment <B>RESISTOR</B>, American symbol
footprint MINI_MELF-0102R
pins: 1, 2

## R-US_MELF0102W
designator R?, comment <B>RESISTOR</B>, American symbol
footprint MINI_MELF-0102W
pins: 1, 2

## R-US_MELF0204R
designator R?, comment <B>RESISTOR</B>, American symbol
footprint MINI_MELF-0204R
pins: 1, 2

## R-US_MELF0204W
designator R?, comment <B>RESISTOR</B>, American symbol
footprint MINI_MELF-0204W
pins: 1, 2

## R-US_MELF0207R
designator R?, comment <B>RESISTOR</B>, American symbol
footprint MINI_MELF-0207R
pins: 1, 2

## R-US_MELF0207W
designator R?, comment <B>RESISTOR</B>, American symbol
footprint MINI_MELF-0207W
pins: 1, 2

## R-US_R0402
designator R?, comment <B>RESISTOR</B>, American symbol
footprint R0402
pins: 1, 2

## R-US_R0603
designator R?, comment <B>RESISTOR</B>, American symbol
footprint R0603
pins: 1, 2

## R-US_R0805
designator R?, comment <B>RESISTOR</B>, American symbol
footprint R0805
pins: 1, 2

## R-US_R0805W
designator R?, comment <B>RESISTOR</B>, American symbol
footprint R0805W
pins: 1, 2

## R-US_R1005
designator R?, comment <B>RESISTOR</B>, American symbol
footprint R1005
pins: 1, 2

## R-US_R1206
designator R?, comment <B>RESISTOR</B>, American symbol
footprint R1206
pins: 1, 2

## R-US_R1206W
designator R?, comment <B>RESISTOR</B>, American symbol
footprint R1206W
pins: 1, 2

## R-US_R1210
designator R?, comment <B>RESISTOR</B>, American symbol
footprint R1210
pins: 1, 2

## R-US_R1210W
designator R?, comment <B>RESISTOR</B>, American symbol
footprint R1210W
pins: 1, 2

## R-US_R2010
designator R?, comment <B>RESISTOR</B>, American symbol
footprint R2010
pins: 1, 2

## R-US_R2010W
designator R?, comment <B>RESISTOR</B>, American symbol
footprint R2010W
pins: 1, 2

## R-US_R2012
designator R?, comment <B>RESISTOR</B>, American symbol
footprint R2012
pins: 1, 2

## R-US_R2012W
designator R?, comment <B>RESISTOR</B>, American symbol
footprint R2012W
pins: 1, 2

## R-US_R2512
designator R?, comment <B>RESISTOR</B>, American symbol
footprint R2512
pins: 1, 2

## R-US_R2512W
designator R?, comment <B>RESISTOR</B>, American symbol
footprint R2512W
pins: 1, 2

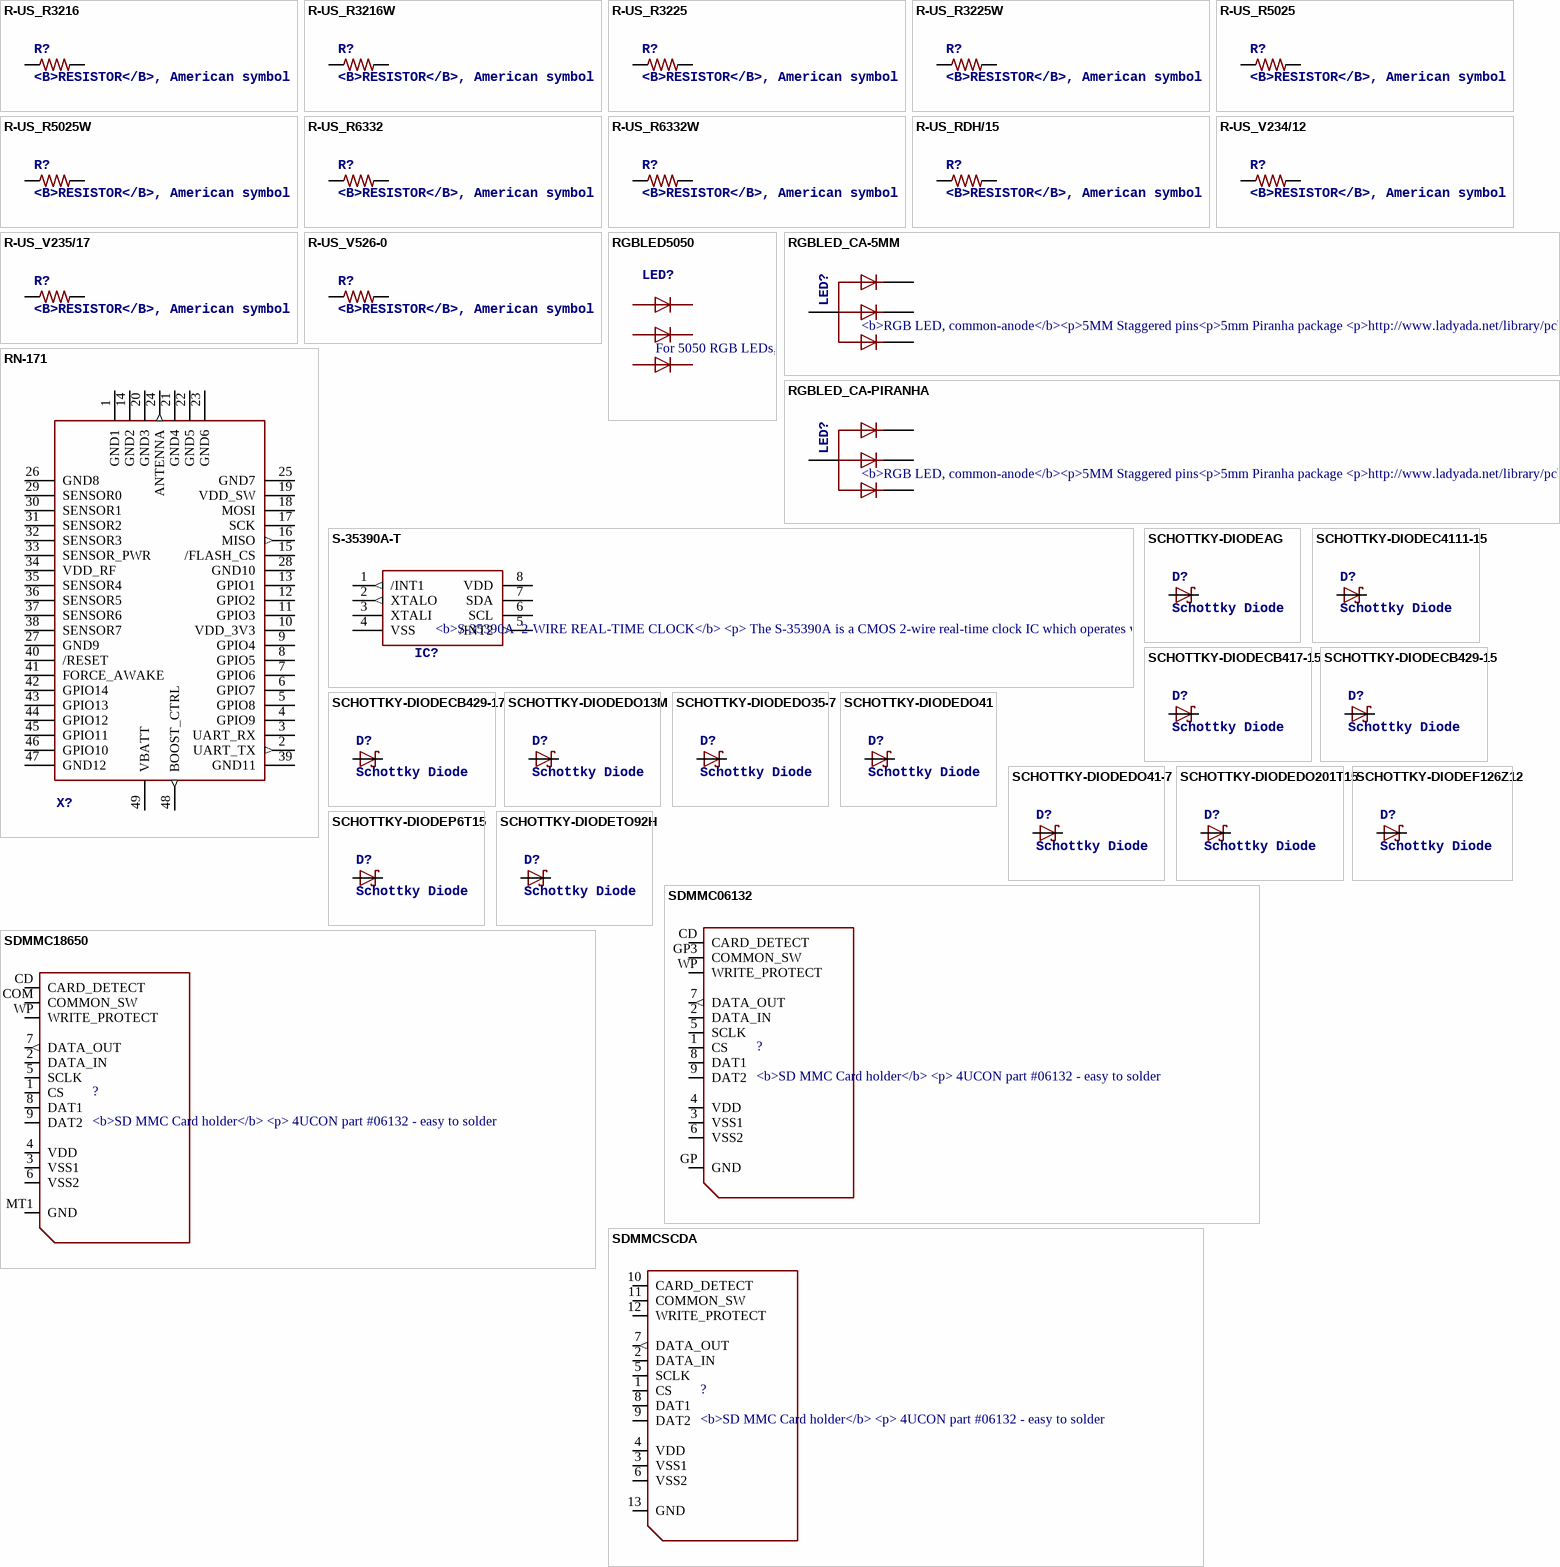
[diagram p27: symbols R-US_R3216 to SDMMCSCDA]